# Altium schematic symbol library SCH_MyLib_0.SchLib: 770 symbols (part 5 of 7)
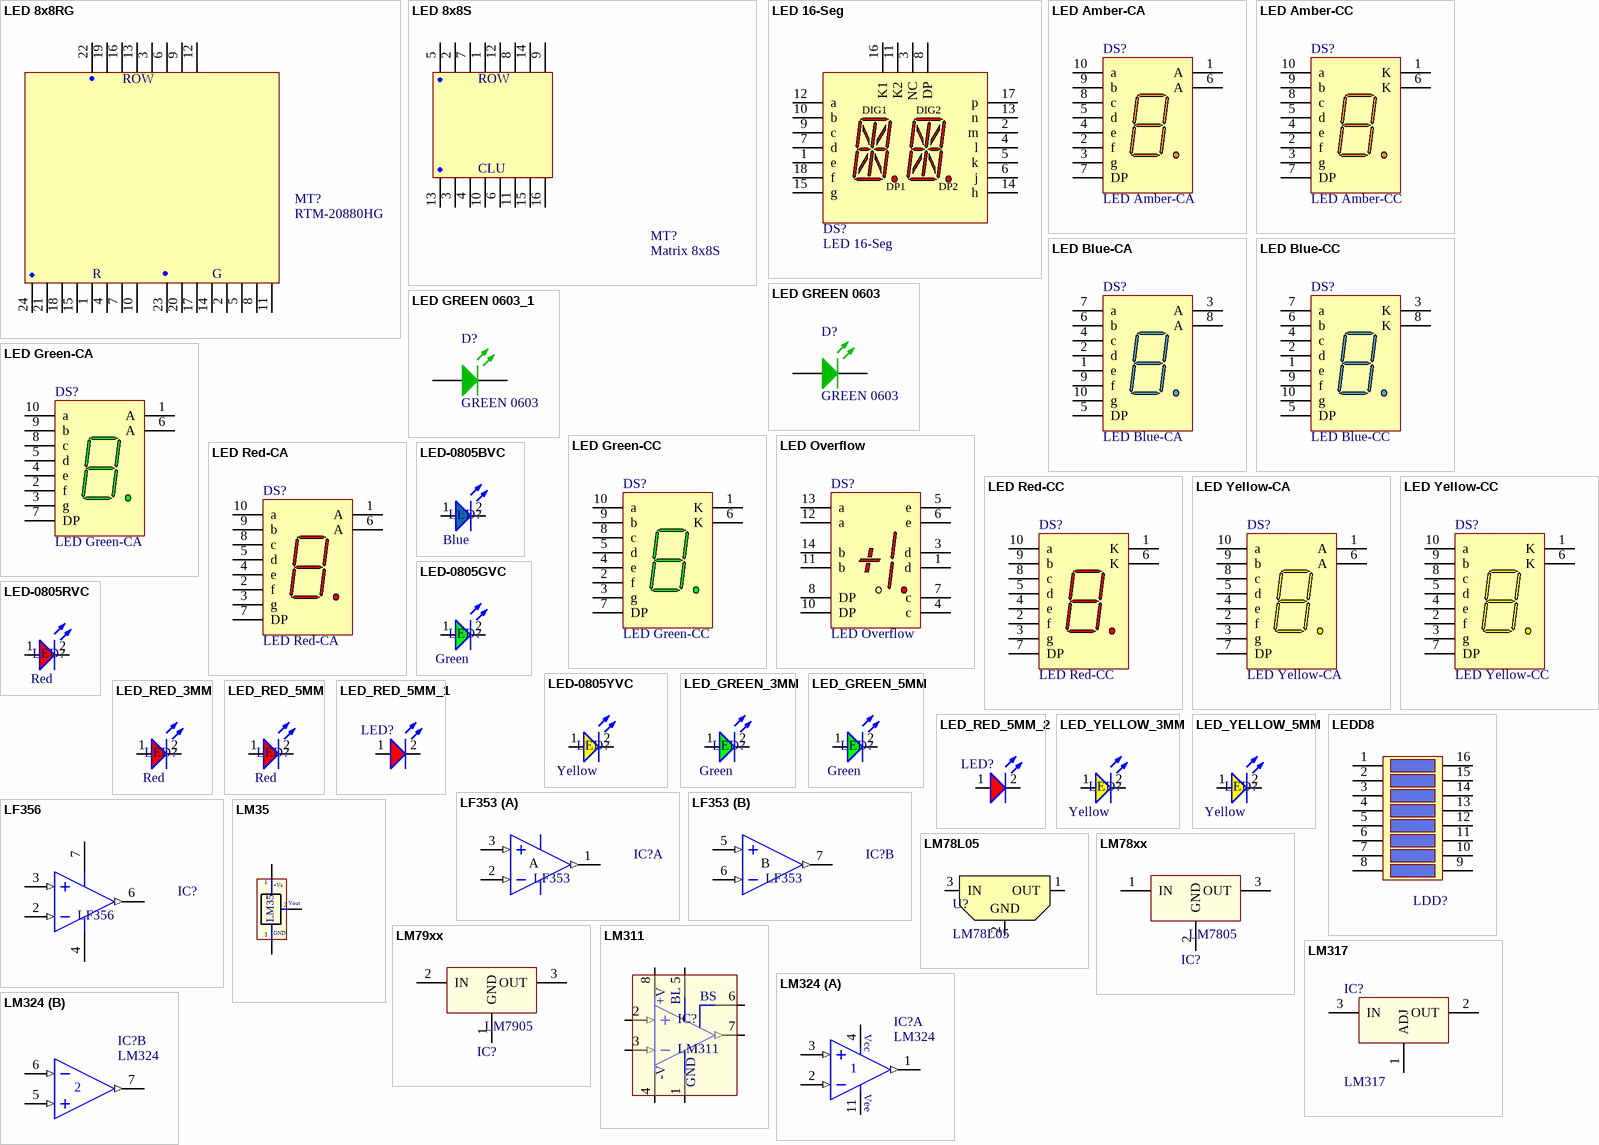
[diagram p31: symbols LED 8x8RG to LM324]

## LED GREEN 0603_1
designator D?, comment GREEN 0603
LED GREEN CLEAR 0603 SMD; Manufacturer: Lite-On Inc.; Manufacturer Part Number: LTST-C190KGKT; Lens Color: Colorless; Millicandela Rating: 35mcd; Lens Style/Size: Rectangle with Flat Top, 1.10mm x 0.80mm; Voltage - Forward (Vf) (Typ): 2V; Current - Test: 20mA; Viewing Angle: 130°; Wavelength - Dominant: 571nm; Wavelength - Peak: 574nm; RoHS: RoHS Compliant; Category: Optoelectronics; Packaging: Cut Tape (CT); Color: Green; Lens Transparency: Clear; Mounting Type: Surface Mount; Features: -; Package / Case: 0603 (1608 Metric); Supplier Device Package: *; Size / Dimension: 1.60mm L x 0.80mm W; Height (Max): 0.80mm; ComponentLink1URL: http://optoelectronics.liteon.com/upload/download/DS22-2000-074/S_110_LTST-C190KGKT.pdf; ComponentLink1Description: http://optoelectronics.liteon.com/upload/download/DS22-2000-074/S_110_LTST-C190KGKT.pdf; Supplier 1: Digi-Key; Supplier Part Number 1: 160-1435-1-ND
footprint LED 0603 SMD (Reflow Soldering)
pins: 1 A, 2 K

## LED Green-CA
designator DS?
7.62 mm Black Surface Green 7-Segment Display: CA, RH DP; MinimumIntensity: 860 ucd; Note: IF = 10 mA; Note: Pins 1 and 6 are redundant Anodes.; Published: 8-Jun-2000; LatestRevisionDate: 17-Dec-2003; LatestRevisionNote: Schematic revised, PCB Footprint replaced.; DatasheetVersion: 19-Feb-2002; PackageVersion: 11-Feb-2002; PackageReference: A; Publisher: Altium Limited; PackageDescription: LED, 7-Segment Display, 7.62 mm, RHD; 10 Leads; Row Space 5.08 mm; Pitch 2.54 mm; Colour: Green; ComponentLink1Description: Manufacturer Link; ComponentLink1URL: http://www.agilent.com/
footprint A (LED, 7-Segment Display, 7.62 mm, RHD; 10 Leads; Row Space 5.08 mm; Pitch 2.54 mm)
simulation model HDSP_A511 (SUBCKT)
pins: 1 A "Anode", 2 f "Cathode", 3 g "Cathode", 4 e "Cathode", 5 d "Cathode", 6 A "Anode", 7 DP "Cathode", 8 c "Cathode", 9 b "Cathode", 10 a "Cathode"

## LED Green-CC
designator DS?
7.62 mm Black Surface Green 7-Segment Display: CC, RH DP; MinimumIntensity: 860 ucd; Note: IF = 10 mA; Note: Pins 1 and 6 are redundant Cathodes.; Published: 8-Jun-2000; LatestRevisionDate: 17-Dec-2003; LatestRevisionNote: Schematic revised, PCB Footprint replaced.; DatasheetVersion: 19-Feb-2002; PackageVersion: 11-Feb-2002; PackageReference: A; Publisher: Altium Limited; PackageDescription: LED, 7-Segment Display, 7.62 mm, RHD; 10 Leads; Row Space 5.08 mm; Pitch 2.54 mm; Colour: Green; ComponentLink1Description: Manufacturer Link; ComponentLink1URL: http://www.agilent.com/
footprint A (LED, 7-Segment Display, 7.62 mm, RHD; 10 Leads; Row Space 5.08 mm; Pitch 2.54 mm)
simulation model HDSP_A513 (SUBCKT)
pins: 1 K "Cathode", 2 f "Anode", 3 g "Anode", 4 e "Anode", 5 d "Anode", 6 K "Cathode", 7 DP "Anode", 8 c "Anode", 9 b "Anode", 10 a "Anode"

## LED Overflow
designator DS?
7.62 mm HER 7-Segment Display: Universal ±1 Overflow, RH DP; MinimumIntensity: 340 ucd; Note: IF = 5 mA; Colour: High Efficiency Red (HER); Note: No pins are present in positions 2 and 9.; Published: 8-Jun-2000; LatestRevisionDate: 17-Dec-2003; LatestRevisionNote: Schematic revised, PCB Footprint replaced.; DatasheetVersion: 27-Aug-2001; PackageVersion: 10-Mar-2001; PackageReference: A-12; Publisher: Altium Limited; PackageDescription: LED, Universal ±1 Overflow, 7.62 mm, RHD; 14 Leads (2 Absent); Row Space 7.62 mm; Pitch 2.54 mm; ComponentLink1Description: Manufacturer Link; ComponentLink1URL: http://www.agilent.com/
footprint A-12 (LED, Universal ±1 Overflow, 7.62 mm, RHD; 14 Leads (2 Absent); Row Space 7.62 mm; Pitch 2.54 mm)
simulation model 5082_7616 (SUBCKT)
pins: 1 d "Anode", 3 d "Cathode", 4 c "Cathode", 5 e "Cathode", 6 e "Anode", 7 c "Anode", 8 DP "Anode", 10 DP "Cathode", 11 b "Cathode", 12 a "Cathode", 13 a "Anode", 14 b "Anode"

## LED Red-CA
designator DS?
7.62 mm Black Surface HER 7-Segment Display: CA, RH DP; MinimumIntensity: 360 ucd; Note: IF = 5 mA; Colour: High Efficiency Red (HER); Note: Pins 1 and 6 are redundant Anodes.; Published: 8-Jun-2000; LatestRevisionDate: 17-Dec-2003; LatestRevisionNote: Schematic revised, PCB Footprint replaced.; DatasheetVersion: 19-Feb-2002; PackageVersion: 11-Feb-2002; PackageReference: A; Publisher: Altium Limited; PackageDescription: LED, 7-Segment Display, 7.62 mm, RHD; 10 Leads; Row Space 5.08 mm; Pitch 2.54 mm; ComponentLink1Description: Manufacturer Link; ComponentLink1URL: http://www.agilent.com/
footprint A (LED, 7-Segment Display, 7.62 mm, RHD; 10 Leads; Row Space 5.08 mm; Pitch 2.54 mm)
simulation model HDSP_A211 (SUBCKT)
pins: 1 A "Anode", 2 f "Cathode", 3 g "Cathode", 4 e "Cathode", 5 d "Cathode", 6 A "Anode", 7 DP "Cathode", 8 c "Cathode", 9 b "Cathode", 10 a "Cathode"

## LED Red-CC
designator DS?
7.62 mm Black Surface HER 7-Segment Display: CC, RH DP; MinimumIntensity: 360 ucd; Note: IF = 5 mA; Colour: High Efficiency Red (HER); Note: Pins 1 and 6 are redundant Cathodes.; Published: 8-Jun-2000; LatestRevisionDate: 17-Dec-2003; LatestRevisionNote: Schematic revised, PCB Footprint replaced.; DatasheetVersion: 19-Feb-2002; PackageVersion: 11-Feb-2002; PackageReference: A; Publisher: Altium Limited; PackageDescription: LED, 7-Segment Display, 7.62 mm, RHD; 10 Leads; Row Space 5.08 mm; Pitch 2.54 mm; ComponentLink1Description: Manufacturer Link; ComponentLink1URL: http://www.agilent.com/
footprint A (LED, 7-Segment Display, 7.62 mm, RHD; 10 Leads; Row Space 5.08 mm; Pitch 2.54 mm)
simulation model HDSP_A213 (SUBCKT)
pins: 1 K "Cathode", 2 f "Anode", 3 g "Anode", 4 e "Anode", 5 d "Anode", 6 K "Cathode", 7 DP "Anode", 8 c "Anode", 9 b "Anode", 10 a "Anode"

## LED Yellow-CA
designator DS?
7.6 mm Micro Bright Yellow 7-Segment Display: CA, RH DP; MinimumIntensity: 225 ucd; Note: IF = 5 mA; Note: Pins 1 and 6 are redundant Anodes.; Published: 8-Jun-2000; LatestRevisionDate: 17-Dec-2003; LatestRevisionNote: Schematic revised, PCB Footprint replaced.; DatasheetVersion: 11-Feb-2002; PackageVersion: 11-Feb-2002; PackageReference: A; Publisher: Altium Limited; PackageDescription: LED, 7-Segment Display, 7.62 mm, RHD; 10 Leads; Row Space 5.08 mm; Pitch 2.54 mm; Colour: Yellow; ComponentLink1Description: Manufacturer Link; ComponentLink1URL: http://www.agilent.com/
footprint A (LED, 7-Segment Display, 7.62 mm, RHD; 10 Leads; Row Space 5.08 mm; Pitch 2.54 mm)
simulation model HDSP_7401 (SUBCKT)
pins: 1 A "Anode", 2 f "Cathode", 3 g "Cathode", 4 e "Cathode", 5 d "Cathode", 6 A "Anode", 7 DP "Cathode", 8 c "Cathode", 9 b "Cathode", 10 a "Cathode"

## LED Yellow-CC
designator DS?
7.6 mm Micro Bright Yellow 7-Segment Display: CC, RH DP; MinimumIntensity: 225 ucd; Note: IF = 5 mA; Note: Pins 1 and 6 are redundant Cathodes.; Published: 8-Jun-2000; LatestRevisionDate: 17-Dec-2003; LatestRevisionNote: Schematic revised, PCB Footprint replaced.; DatasheetVersion: 11-Feb-2002; PackageVersion: 11-Feb-2002; PackageReference: A; Publisher: Altium Limited; PackageDescription: LED, 7-Segment Display, 7.62 mm, RHD; 10 Leads; Row Space 5.08 mm; Pitch 2.54 mm; Colour: Yellow; ComponentLink1Description: Manufacturer Link; ComponentLink1URL: http://www.agilent.com/
footprint A (LED, 7-Segment Display, 7.62 mm, RHD; 10 Leads; Row Space 5.08 mm; Pitch 2.54 mm)
simulation model HDSP_7403 (SUBCKT)
pins: 1 K "Cathode", 2 f "Anode", 3 g "Anode", 4 e "Anode", 5 d "Anode", 6 K "Cathode", 7 DP "Anode", 8 c "Anode", 9 b "Anode", 10 a "Anode"

## LED-0805BVC
designator LED?  value Blue  (hidden comment: LED-0805BVC)
LED Blue 2mA 3V 0805; ComponentLink1Description: Datasheet; ComponentLink1URL: D:\Dropbox\Datasheets\Opto and Illumination\LEDs\SMD LED.pdf; Unit Price: 0.0476
footprint Led 0805G (Chip LED; Green; Body 2.0 x 1.3 mm (LxW typ))
pins: 1 A, 2 K

## LED-0805GVC
designator LED?  value Green  (hidden comment: LED-0805GVC)
LED Green 2mA 3V 0805; ComponentLink1Description: Datasheet; ComponentLink1URL: D:\Dropbox\Datasheets\Opto and Illumination\LEDs\SMD LED.pdf; Unit Price: 0.0476
footprint Led 0805G (Chip LED; Green; Body 2.0 x 1.3 mm (LxW typ))
pins: 1 A, 2 K

## LED-0805RVC
designator LED?  value Red  (hidden comment: LED-0805RVC)
LED Red 2mA 1.8V 0805; ComponentLink1Description: Datasheet; ComponentLink1URL: D:\Dropbox\Datasheets\Opto and Illumination\LEDs\SMD LED.pdf; Unit Price: 0.0476
footprint Led 0805R (Chip LED; RED ; Body 2.0 x 1.3 mm (LxW typ))
pins: 1 A, 2 K

## LED-0805YVC
designator LED?  value Yellow  (hidden comment: LED-0805YVC)
LED Yellow 2mA 1.8V 0805; ComponentLink1Description: Datasheet; ComponentLink1URL: D:\Dropbox\Datasheets\Opto and Illumination\LEDs\SMD LED.pdf; Unit Price: 0.0476
footprint Led 0805Y (Chip LED; Yellow; Body 2.0 x 1.3 mm (LxW typ))
pins: 1 A, 2 K

## LED_GREEN_3MM
designator LED?, comment value Green  (hidden comment: LED_G_3)
LED Green 3mm; ComponentLink1Description: Datasheet; ComponentLink1URL: D:\Dropbox\Datasheets\Opto and Illumination\LEDs\SMD LED.pdf; Unit Price: 0.0476
footprint LED3G (LED 3mm_GREEN)
pins: 1 A, 2 K

## LED_GREEN_5MM
designator LED?, comment value Green  (hidden comment: LED_G_5)
LED Green 5mm; ComponentLink1Description: Datasheet; ComponentLink1URL: D:\Dropbox\Datasheets\Opto and Illumination\LEDs\SMD LED.pdf; Unit Price: 0.0476
footprint LED5G (LED, GREEN, 2 LEAD, 5mm)
pins: 1 A, 2 K

## LED_RED_3MM
designator LED?, comment value Red  (hidden comment: LED_R_3)
LED Red 3mm; ComponentLink1Description: Datasheet; ComponentLink1URL: D:\Dropbox\Datasheets\Opto and Illumination\LEDs\SMD LED.pdf; Unit Price: 0.0476
footprint LED3R (LED 3mm_RED)
pins: 1 A, 2 K

## LED_RED_5MM
designator LED?, comment value Red  (hidden comment: LED_R_5)
LED Red 5mm; ComponentLink1Description: Datasheet; ComponentLink1URL: D:\Dropbox\Datasheets\Opto and Illumination\LEDs\SMD LED.pdf; Unit Price: 0.0476
footprint LED5R (LED, RED, 2 LEAD, 5mm)
pins: 1 A, 2 K

## LED_RED_5MM_1
designator LED?, comment RED LED 5mm  (value not drawn)
LED Red 5mm; Manufacturer: Broadcom Limited; Cost (VNĐ): 1000; Lens Transparency: Clear; Millicandela Rating: 60mcd; Lens Style/Size: Round with Domed Top, 5mm (T-1 3/4), 4.83mm; Voltage - Forward (Vf) (Typ): 1.9V; Current - Test: 10mA; Viewing Angle: 35°; Wavelength - Dominant: 626nm; Wavelength - Peak: 635nm; BuyLink: http://www.tme.vn/Product.aspx?id=1277#page=pro_info; Value: RED LED 5mm; Supplier 1: Digi-Key; Supplier Part Number 1: 516-1335-ND; Manufacturer Part Number: HLMP-3316; RoHS: RoHS Compliant; Category: Optoelectronics; Stock 1: 11943; Pricing 1: 1=0.41, 10=0.294, 25=0.24, 100=0.192, 250=0.162, 500=0.138, 1000=0.108, 2500=0.099 (USD); Packaging: Bulk; Part Status: Active; Color: Red; Lens Color: Red; Mounting Type: Through Hole; Features: -; Package / Case: Radial; Supplier Device Package: T-1 3/4; Size / Dimension: -; Height (Max): 9.19mm; ComponentLink1URL: https://docs.broadcom.com/docs/AV02-1023EN; ComponentLink1Description: https://docs.broadcom.com/docs/AV02-1023EN
footprint LED5R (LED, RED, 2 LEAD, 5mm)
pins: 1 A, 2 K

## LED_RED_5MM_2
designator LED?, comment RED LED 5mm  (value not drawn)
LED Red 5mm; Manufacturer: Broadcom Limited; Cost (VNĐ): 1000; Lens Transparency: Clear; Millicandela Rating: 60mcd; Lens Style/Size: Round with Domed Top, 5mm (T-1 3/4), 4.83mm; Voltage - Forward (Vf) (Typ): 1.9V; Current - Test: 10mA; Viewing Angle: 35°; Wavelength - Dominant: 626nm; Wavelength - Peak: 635nm; BuyLink: http://www.tme.vn/Product.aspx?id=1277#page=pro_info; Value: RED LED 5mm; Supplier 1: Digi-Key; Supplier Part Number 1: 516-1335-ND; Manufacturer Part Number: HLMP-3316; RoHS: RoHS Compliant; Category: Optoelectronics; Stock 1: 11943; Pricing 1: 1=0.41, 10=0.294, 25=0.24, 100=0.192, 250=0.162, 500=0.138, 1000=0.108, 2500=0.099 (USD); Packaging: Bulk; Part Status: Active; Color: Red; Lens Color: Red; Mounting Type: Through Hole; Features: -; Package / Case: Radial; Supplier Device Package: T-1 3/4; Size / Dimension: -; Height (Max): 9.19mm; ComponentLink1URL: https://docs.broadcom.com/docs/AV02-1023EN; ComponentLink1Description: https://docs.broadcom.com/docs/AV02-1023EN
footprint LED5R (LED, RED, 2 LEAD, 5mm)
pins: 1 A, 2 K

## LED_YELLOW_3MM
designator LED?, comment value Yellow  (hidden comment: LED_Y_3)
LED Yellow 3mm; ComponentLink1Description: Datasheet; ComponentLink1URL: D:\Dropbox\Datasheets\Opto and Illumination\LEDs\SMD LED.pdf; Unit Price: 0.0476
footprint LED3Y (LED 3mm_Yellow)
pins: 1 A, 2 K

## LED_YELLOW_5MM
designator LED?, comment value Yellow  (hidden comment: LED_Y_5)
LED Yellow 5mm; ComponentLink1Description: Datasheet; ComponentLink1URL: D:\Dropbox\Datasheets\Opto and Illumination\LEDs\SMD LED.pdf; Unit Price: 0.0476
footprint LED5Y (LED, YELLOW, 2 LEAD, 5mm)
pins: 1 A, 2 K

## LEDD8
designator LDD?, comment LED DIP 8  (value not drawn)
Value: LED DIP 8
footprint DIP16/W0.3K (16 PIN, W 300mil, Pin to pin 100mil For Switch)
pins: 1, 2, 3, 4, 5, 6, 7, 8, 9, 10, 11, 12, 13, 14, 15, 16

## LF353
designator IC?
Wide-Bandwidth Dual JFET Input Operational Amplifier; Published: 15-Apr-2002; LatestRevisionDate: 06-Jun-2005; LatestRevisionNote: Stylized 3D Model Added.; DatasheetDocument: Apr-1998; PackageDocument: Sep-1997; Publisher: Altium Limited; ComponentLink1Description: Manufacturer Link; ComponentLink1URL: http://www.national.com/; ComponentLink2Description: Datasheet; ComponentLink2URL: http://www.national.com/ds.cgi/LF/LF353.pdf; ComponentLink3Description: URL Link1; ComponentLink3URL: http://www.national.com/pf/LF/LF353.html; Value: LF353
footprint DIP8/W0.3 (8 PIN, W 300mil, Pin to pin 100mil)
part A pins: 1 OUT (out), 2 IN- (in), 3 IN+ (in)
part B pins: 5 IN+ (in), 6 IN- (in), 7 OUT (out)
part A text: A
part B text: B

## LF356
designator IC?
Wide-Bandwidth Single JFET Input Operational Amplifier; Published: 15-Apr-2002; LatestRevisionDate: 06-Jun-2005; LatestRevisionNote: Stylized 3D Model Added.; DatasheetDocument: Apr-1998; PackageDocument: Sep-1997; Publisher: Altium Limited; ComponentLink1Description: Manufacturer Link; ComponentLink1URL: http://www.national.com/; ComponentLink2Description: Datasheet; ComponentLink2URL: http://www.national.com/ds.cgi/LF/LF353.pdf; ComponentLink3Description: URL Link1; ComponentLink3URL: http://www.national.com/pf/LF/LF353.html; Value: LF356
footprint DIP8/W0.3 (8 PIN, W 300mil, Pin to pin 100mil)
pins: 2 IN- (in), 3 IN+ (in), 4 V- (power), 6 OUT (out), 7 V+ (power)

## LM35
designator U?
Teminal; Value: LM35
footprint QTO-92 (TO-92)
pins: 1 +Vs, 2 Vout, 3 -
text: GND

## LM78L05
designator U?
Linear Voltage Regulator 5V 0.1A 35V Max TO-92; ComponentLink1Description: Datasheet; ComponentLink1URL: D:\Dropbox\Datasheets\Power Management ICs\Linear Regulators\LM78LXX.pdf; Unit Price: 0.0714
footprint TO-92B (TO-92 Bent Lead, Flat Index; 3 In-Line, Axial Leads; Body Dia. 4.5mm; Leads 0.51 x 0.48 mm (max))
pins: 1 OUT (power), 2 GND (power), 3 IN (power)

## LM78xx
designator IC?, comment LM7805
On ap +, from + 5 to + 24VDC; Value: LM7805
footprint QTO-220 (TO-220 - 1-2-3)
footprint QTO-220H3 (TO-220 1-2-3)
footprint QTO-220NH (TO-220 - 1-2-3)
pins: 1 IN, 2 GND, 3 OUT

## LM79xx
designator IC?, comment LM7905
On ap -, from - 5 to - 24VDC; Value: LM7905
footprint QTO-220 (TO-220 - 1-2-3)
footprint QTO-220H3 (TO-220 1-2-3)
footprint QTO-220NH (TO-220 - 1-2-3)
pins: 1 GND, 2 IN, 3 OUT

## LM311
designator IC?
Voltage Comparator; Value: DIP 8; Value: LM311
footprint DIP8/W0.3 (8 PIN, W 300mil, Pin to pin 100mil)
footprint SO-8 (8-Pin Small Outline Integrated Circuit 1.27 mm Pitch, IPC Medium Density)
pins: 1 F2 (power), 2 IN+ (in), 3 IN- (in), 4 GND (power), 5 F1 (power), 6 F2 (power), 7 OUT (out), 8 V+ (power)
text: +V; BL; BS; -V

## LM317
designator IC?
Adj Voltage +1.2 -> +37V; Value: LM317
footprint QTO-220 (TO-220 - 1-2-3)
pins: 1 ADJ, 2 OUT, 3 IN

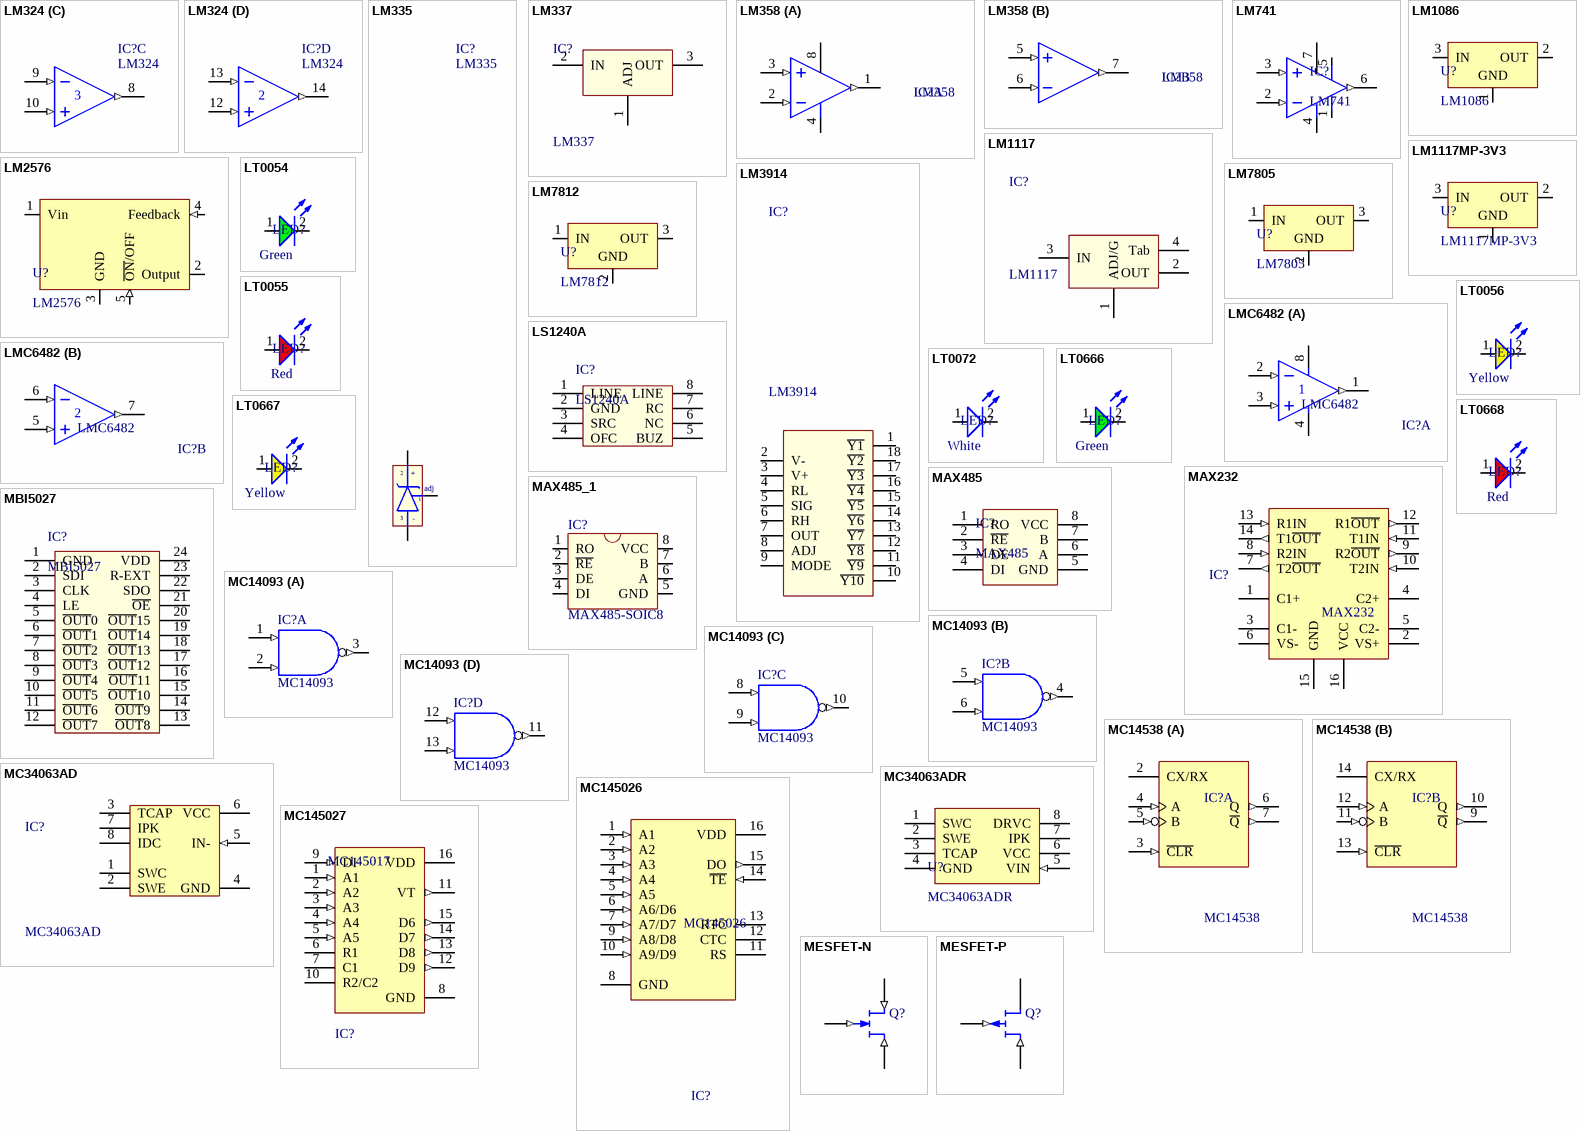
[diagram p16: symbols LM324 to MESFET-P]

## LM324
designator IC?
Op x 4; Value: LM324
footprint DIP14/W0.3 (14PIN, W 300mil)
part A pins: 1 OUT (out), 2 IN- (in), 3 IN+ (in), 4 V+ (power), 11 V- (power)
part B pins: 5 IN+ (in), 6 IN- (in), 7 OUT (out)
part C pins: 8 OUT (out), 9 IN- (in), 10 IN+ (in)
part D pins: 12 IN+ (in), 13 IN- (in), 14 OUT (out)
part A text: Vcc; Vee

## LM335
designator IC?
Teminal; Value: LM335
footprint QTO-92 (TO-92)
pins: 1 adj, 2 +, 3 -

## LM337
designator IC?
On ap (-)     -1.2 -> - 37V; Value: LM337
footprint QTO-220 (TO-220 - 1-2-3)
pins: 1 ADJ, 2 IN, 3 OUT

## LM358
designator IC?
Low-Power Dual Operational Amplifier; Value: LM358
footprint DIP8/W0.3 (8 PIN, W 300mil, Pin to pin 100mil)
part A pins: 1 OUT (out), 2 IN- (in), 3 IN+ (in), 4 -V, 8 +V
part B pins: 5 IN+ (in), 6 IN- (in), 7 OUT (out)

## LM741
designator IC?
Single OA
footprint DIP8/W0.3 (8 PIN, W 300mil, Pin to pin 100mil)
pins: 1 Vos, 2 IN- (in), 3 IN+ (in), 4 -V, 5 Vos, 6 OUT (out), 7 +V

## LM1086
designator U?
Linear Voltage Regulator 3V3 1.5A 24V Max TO-220; ComponentLink1Description: Datasheet; ComponentLink1URL: D:\Dropbox\Datasheets\Power Management ICs\Linear Regulators\LM78XX.pdf; Unit Price: 0.3000
footprint LM1086 (TO-263 1.5A Low Dropout Positive Regulators)
pins: 1 GND (power), 2 OUT (power), 3 IN (power)

## LM1117
designator IC?
3v3; Value: LM317
footprint SOT223-4N (SOT223, 4-Leads, Body 6.5x3.5mm, Pitch 2.3mm, Lead Span 7mm, IPC Medium Density)
pins: 1 ADJ/G, 2 OUT, 3 IN, 4 Tab

## LM1117MP-3V3
designator U?
Linear Voltage Regulator 3.3V 1A 15V Max SOT-223; ComponentLink1Description: Datasheet; ComponentLink1URL: D:\Dropbox\Datasheets\Power Management ICs\Linear Regulators\LM1117.pdf; Unit Price: 0.2000
footprint AMS1117-3.3V (SOT223, 4-Leads, Body 6.7x7.3mm (max), Pitch 2.30mm, IPC Medium Density)
pins: 1 GND (power), 2 OUT (power), 3 IN (power), 4 OUT (power)

## LM2576
designator U?
Step-Down Switching Regulator 5V 3.0 A 15 V Max
pins: 1 Vin (power), 2 Output (power), 3 GND (power), 4 Feedback (in), 5 ~{ON}/OFF (in)

## LM3914
designator IC?
Value: LM3914
footprint DIP18/W0.3 (18 PIN, W 300mil, Pin to pin 100mil)
pins: 1 ~{Y1}, 2 V-, 3 V+, 4 RL, 5 SIG, 6 RH, 7 OUT, 8 ADJ, 9 MODE, 10 ~{Y10}, 11 ~{Y9}, 12 ~{Y8}, 13 ~{Y7}, 14 ~{Y6}, 15 ~{Y5}, 16 ~{Y4}, 17 ~{Y3}, 18 ~{Y2}

## LM7805
designator U?
Linear Voltage Regulator 5V 1A 24V Max TO-220; ComponentLink1Description: Datasheet; ComponentLink1URL: D:\Dropbox\Datasheets\Power Management ICs\Linear Regulators\LM78XX.pdf; Unit Price: 0.3000
footprint LM7805 (POWER IC 7805)
pins: 1 IN (power), 2 GND (power), 3 OUT (power)

## LM7812
designator U?
Linear Voltage Regulator 12V 1A 24V Max TO-220; ComponentLink1Description: Datasheet; ComponentLink1URL: D:\Dropbox\Datasheets\Power Management ICs\Linear Regulators\LM78XX.pdf; Unit Price: 0.3000
footprint LM7805 (POWER IC 7805)
pins: 1 IN (power), 2 GND (power), 3 OUT (power)

## LMC6482
designator IC?
Dual OA; Value: LMC6482
footprint DIP8/W0.3 (8 PIN, W 300mil, Pin to pin 100mil)
part A pins: 1 OUT (out), 2 IN- (in), 3 IN+ (in), 4 V- (power), 8 V+ (power)
part B pins: 5 IN+ (in), 6 IN- (in), 7 OUT (out)

## LS1240A
designator IC?
Electronic Two-Tone Ringer
footprint DIP8/W0.3 (8 PIN, W 300mil, Pin to pin 100mil)
pins: 1 LINE, 2 GND, 3 SRC, 4 OFC, 5 BUZ, 6 NC, 7 RC, 8 LINE

## LT0054
designator LED?  value Green  (hidden comment: LT0054)
LED Green 20mA 2.2V 5mm; ComponentLink1Description: Datasheet; ComponentLink1URL: D:\Dropbox\Datasheets\Opto and Illumination\LEDs\LT0054.pdf; Unit Price: 0.0085
footprint LED5G (Footprint not found)
pins: 1 A, 2 K

## LT0055
designator LED?  value Red  (hidden comment: LT0055)
LED Red 20mA 2.0V 5mm; ComponentLink1Description: Datasheet; ComponentLink1URL: D:\Dropbox\Datasheets\Opto and Illumination\LEDs\LT0055.pdf; Unit Price: 0.0077
footprint LED5R (Footprint not found)
pins: 1 A, 2 K

## LT0056
designator LED?  value Yellow  (hidden comment: LT0056)
LED Yellow 20mA 2.1V 5mm; ComponentLink1Description: Datasheet; ComponentLink1URL: D:\Dropbox\Datasheets\Opto and Illumination\LEDs\LT0056.pdf; Unit Price: 0.0085
footprint LED5Y (Footprint not found)
pins: 1 A, 2 K

## LT0072
designator LED?  value White  (hidden comment: LT0072)
LED White 20mA 2.8V 5mm; ComponentLink1Description: Datasheet; ComponentLink1URL: D:\Dropbox\Datasheets\Opto and Illumination\LEDs\LT0072.pdf; Unit Price: 0.0085
footprint LED5W (IrLED; 2 Leads; 5mm)
pins: 1 A, 2 K

## LT0666
designator LED?  value Green  (hidden comment: LT0666)
LED Green 2mA 2.2V 3mm; ComponentLink1Description: Datasheet; ComponentLink1URL: D:\Dropbox\Datasheets\Opto and Illumination\LEDs\LT0666.pdf; Unit Price: 0.0070
footprint LED3G (Footprint not found)
pins: 1 A, 2 K

## LT0667
designator LED?  value Yellow  (hidden comment: LT0667)
LED Yellow 2mA 2.1V 3mm; ComponentLink1Description: Datasheet; ComponentLink1URL: D:\Dropbox\Datasheets\Opto and Illumination\LEDs\LT0667.pdf; Unit Price: 0.0082
footprint LED3Y (Footprint not found)
pins: 1 A, 2 K

## LT0668
designator LED?  value Red  (hidden comment: LT0668)
LED Red 2mA 2.0V 3mm; ComponentLink1Description: Datasheet; ComponentLink1URL: D:\Dropbox\Datasheets\Opto and Illumination\LEDs\LT0668.pdf; Unit Price: 0.0067
footprint LED3R (Footprint not found)
pins: 1 A, 2 K

## MAX232
designator IC?
Dual EIA-232 Driver/Receiver; Value: MAX232
footprint DIP16/W0.3 (16 PIN, W 300mil, Pin to pin 100mil)
footprint SO-G16 (Small Outline; 16 Leads; Body Width 3.9 mm; Pitch 1.27 mm)
pins: 1 C1+, 2 VS+ (power), 3 C1-, 4 C2+, 5 C2-, 6 VS- (power), 7 T2~{OUT} (out), 8 R2IN (in), 9 R2~{OUT} (out), 10 T2IN (in), 11 T1IN (in), 12 R1~{OUT} (out), 13 R1IN (in), 14 T1~{OUT} (out), 15 GND (power), 16 VCC (power)

## MAX485
designator IC?
RS232 - RS485 (Same sn75176)
footprint DIP8/W0.3 (8 PIN, W 300mil, Pin to pin 100mil)
footprint SO-8 (8-Pin Small Outline Integrated Circuit 1.27 mm Pitch, IPC Medium Density)
pins: 1 RO "Receiver Output", 2 ~{RE} "Receiver Enable Output", 3 DE "Driver Enable Output", 4 DI "Driver Input", 5 GND, 6 A "RI & NoneDO", 7 B "NoneDI", 8 VCC

## MAX485_1
designator IC?, comment MAX485-SOIC8
footprint MAX485 (8-Pin SOIC 208 mil)
pins: 1 RO, 2 ~{RE}, 3 DE, 4 DI, 5 GND, 6 A, 7 B, 8 VCC

## MBI5027
designator IC?
16 bit Constant Current LED; Creat by: VanDungEvn@Gmail.com; Compoment same: SM16126
footprint SOP_24M_127 (SOP, 24-Leads, Body 15.6x8.1mm, Pitch 1.27mm, IPC Low Density)
pins: 1 GND, 2 SDI, 3 CLK, 4 LE, 5 ~{OUT}0, 6 ~{OUT}1, 7 ~{OUT}2, 8 ~{OUT}3, 9 ~{OUT}4, 10 ~{OUT}5, 11 ~{OUT}6, 12 ~{OUT}7, 13 ~{OUT}8, 14 ~{OUT}9, 15 ~{OUT}10, 16 ~{OUT}11, 17 ~{OUT}12, 18 ~{OUT}13, 19 ~{OUT}14, 20 ~{OUT}15, 21 ~{OE}, 22 SDO, 23 R-EXT, 24 VDD

## MC14093
designator IC?
Quad 2-Input NAND Schmitt Trigger; Value: MC14093
footprint DIP14/W0.3 (14PIN, W 300mil, Pin to pin 100mil)
pins on every part: 7 GND (power) hidden to GND, 14 VDD (power) hidden to VDD
part A pins: 1 A (in), 2 B (in), 3 ~{Y} (out)
part B pins: 4 ~{Y} (out), 5 A (in), 6 B (in)
part C pins: 8 A (in), 9 B (in), 10 ~{Y} (out)
part D pins: 11 ~{Y} (out), 12 A (in), 13 B (in)

## MC14538
designator IC?
Dual Precision Retriggerable/Resettable Monostable Multivibrator; Value: MC14538
footprint DIP16/W0.3 (16 PIN, W 300mil, Pin to pin 100mil)
pins on every part: 1 GND (power) hidden to GND, 8 GND (power) hidden to GND, 15 GND (power) hidden to GND, 16 VDD (power) hidden to VDD
part A pins: 2 CX/RX, 3 ~{CLR} (in), 4 A (in), 5 B (in), 6 Q (out), 7 ~{Q} (out)
part B pins: 9 ~{Q} (out), 10 Q (out), 11 B (in), 12 A (in), 13 ~{CLR} (in), 14 CX/RX

## MC34063AD
designator IC?
DC-to-DC Converter Control Circuit; Published: 15-Apr-2002; LatestRevisionDate: 13-Apr-2006; LatestRevisionNote: IPC-7351 Footprint Added.; DatasheetVersion: 1996; PackageVersion: 1998; PackageReference: 751-05; Publisher: Altium Limited; PackageDescription: 8-Pin Small Outline Integrated Circuit 1.27 mm Pitch; Code_JEDEC: MS-012-AA; Code_IPC: SOIC127P600-8; ComponentLink1Description: Manufacturer Link; ComponentLink1URL: http://www.onsemi.com/site/products/taxonomy/0,4438,503,00.html; ComponentLink2Description: Datasheet; ComponentLink2URL: http://www.onsemi.com/pub/Collateral/MC34063A-D.PDF
footprint SO-G8/Z7.45 (Small Outline; 8 Leads; Body Width 3.9 mm; Pitch 1.27 mm)
footprint DIP8/W0.3 (8 PIN, W 300mil, Pin to pin 100mil)
pins: 1 SWC, 2 SWE, 3 TCAP, 4 GND (power), 5 IN- (in), 6 VCC (power), 7 IPK, 8 IDC (oc)

## MC34063ADR
designator U?
Peak Boost/Buck/Inverting Switching  Regulators 1.5 A 40 V Max SOIC-8; ComponentLink1Description: Datasheet; ComponentLink1URL: D:\Dropbox\Datasheets\Power Management ICs\Switching Regulators\MC34063A.pdf; Unit Price: 0.2000
footprint SOIC-8 (8-pin soic package 1.27 mm pitch 1.75 mm height)
pins: 1 SWC, 2 SWE, 3 TCAP, 4 GND (power), 5 VIN (in), 6 VCC (power), 7 IPK, 8 DRVC

## MC145026
designator IC?
Encoder Remote; Value: MC145026
footprint DIP16/W0.3 (16 PIN, W 300mil, Pin to pin 100mil)
pins: 1 A1 (in), 2 A2 (in), 3 A3 (in), 4 A4 (in), 5 A5 (in), 6 A6/D6 (in), 7 A7/D7 (in), 8 GND (power), 9 A8/D8 (in), 10 A9/D9 (in), 11 RS, 12 CTC, 13 RTC, 14 ~{TE} (in), 15 DO (out), 16 VDD (power)

## MC145027
designator IC?, comment MC145017
Decoder Remote; Value: MC145027
footprint DIP16/W0.3 (16 PIN, W 300mil, Pin to pin 100mil)
pins: 1 A1 (in), 2 A2 (in), 3 A3 (in), 4 A4 (in), 5 A5 (in), 6 R1, 7 C1, 8 GND (power), 9 DI (in), 10 R2/C2, 11 VT (out), 12 D9 (out), 13 D8 (out), 14 D7 (out), 15 D6 (out), 16 VDD (power)

## MESFET-N
designator Q?
N-Channel MESFET; Published: 8-Jun-2000; LatestRevisionDate: 17-Jul-2002; LatestRevisionNote: Re-released for DXP Platform.; PackageReference: TO-18; Publisher: Altium Limited; PackageDescription: Can; 3 Leads; Pin Circle Dia. 2.54 mm; Lead Dia. 0.48 mm (max); Code_JEDEC: TO-18
footprint TO-18 (Can; 3 Leads; Pin Circle Dia. 2.54 mm; Lead Dia. 0.48 mm (max))
simulation model NMESFET (MESFET-N)
pins: 1 D (in), 2 G (in), 3 S (in)

## MESFET-P
designator Q?
P-Channel MESFET; Published: 8-Jun-2000; LatestRevisionDate: 17-Jul-2002; LatestRevisionNote: Re-released for DXP Platform.; PackageReference: TO-18; Publisher: Altium Limited; PackageDescription: Can; 3 Leads; Pin Circle Dia. 2.54 mm; Lead Dia. 0.48 mm (max); Code_JEDEC: TO-18
footprint TO-18 (Can; 3 Leads; Pin Circle Dia. 2.54 mm; Lead Dia. 0.48 mm (max))
simulation model PMESFET (MESFET-P)
pins: 1 D (in), 2 G (in), 3 S

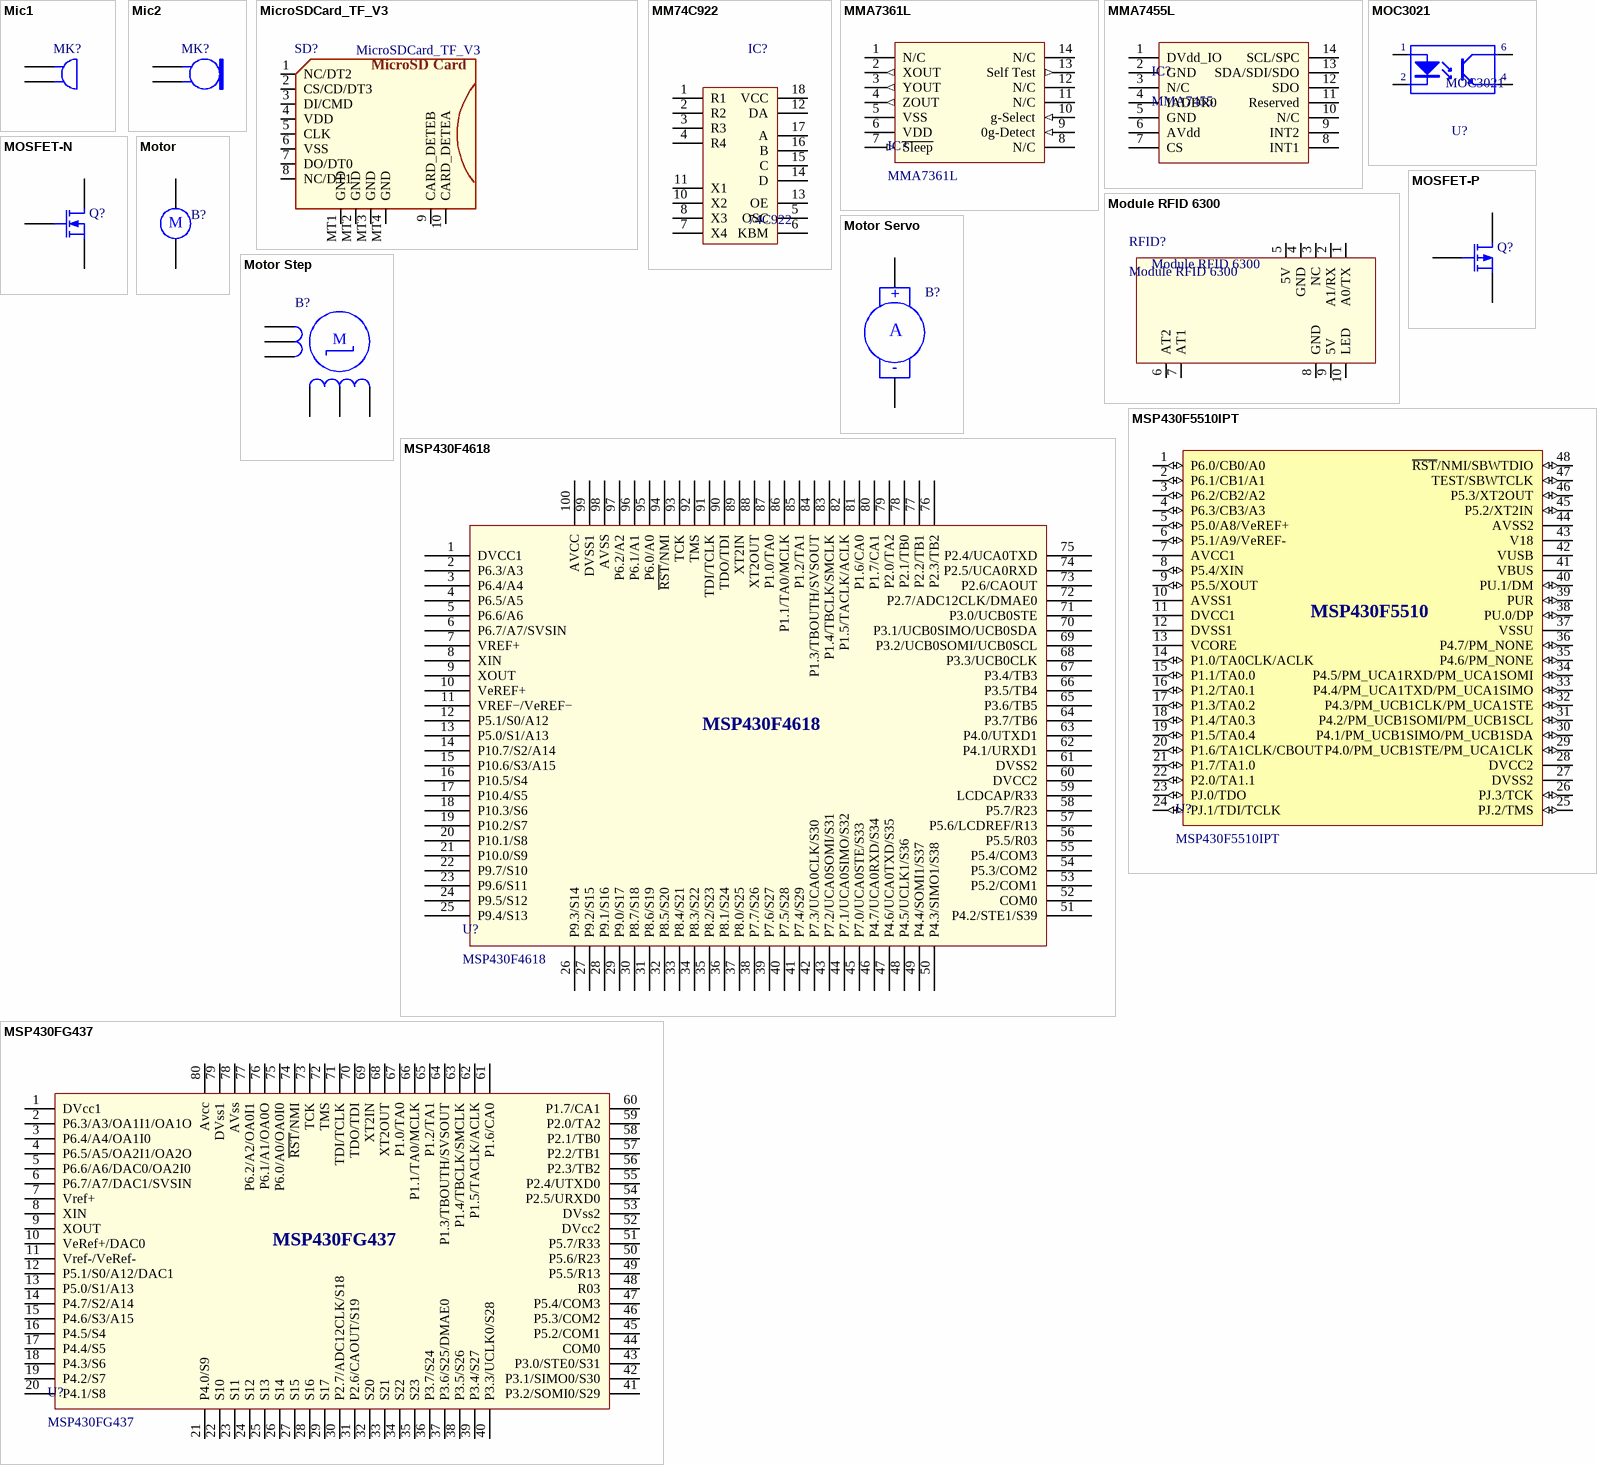
[diagram p17: symbols Mic1 to MSP430FG437]

## Mic1
designator MK?
Microphone; Published: 24-Mar-1999; LatestRevisionDate: 17-Jul-2002; LatestRevisionNote: Re-released for DXP Platform.; PackageReference: PIN2; Publisher: Altium Limited
footprint PIN2 (Microphone; 2 Leads)
pins: 1, 2

## Mic2
designator MK?
Microphone; Published: 24-Mar-1999; LatestRevisionDate: 17-Jul-2002; LatestRevisionNote: Re-released for DXP Platform.; PackageReference: PIN2; Publisher: Altium Limited
footprint PIN2 (Microphone; 2 Leads)
pins: 1, 2

## MicroSDCard_TF_V3
designator SD?
pins: 1 NC/DT2, 2 CS/CD/DT3, 3 DI/CMD, 4 VDD, 5 CLK, 6 VSS, 7 DO/DT0, 8 NC/DT1, 9 CARD_DETEB, 10 CARD_DETEA, MT1 GND, MT2 GND, MT3 GND, MT4 GND
text: MicroSD Card

## MM74C922
designator IC?, comment 74C922
16 Key Encoder With Debouncer; Value: MM74C922
footprint DIP18/W0.3 (18 PIN, W 300mil, Pin to pin 100mil)
pins: 1 R1, 2 R2, 3 R3, 4 R4, 5 OSC, 6 KBM, 7 X4, 8 X3, 9 GND hidden to GND, 10 X2, 11 X1, 12 DA, 13 OE, 14 D, 15 C, 16 B, 17 A, 18 VCC

## MMA7361L
designator IC?
±2g/±4g/±8g Three Axis Low-g  analog Output
footprint MMA7361L (1.5g, 6g Three Axis Low-g Micromachined Accelerometer)
pins: 1 N/C, 2 XOUT (out), 3 YOUT (out), 4 ZOUT (out), 5 VSS, 6 VDD, 7 ~{Sleep} (in), 8 N/C, 9 0g-Detect (in), 10 g-Select (in), 11 N/C, 12 N/C, 13 Self Test (out), 14 N/C

## MMA7455L
designator IC?, comment MMA7455
±2g/±4g/±8g Three Axis Low-g  I2C Output
footprint MMA7455 (Footprint not found)
pins: 1 DVdd_IO, 2 GND, 3 N/C, 4 IADDR0, 5 GND, 6 AVdd, 7 CS, 8 INT1, 9 INT2, 10 N/C, 11 Reserved, 12 SDO, 13 SDA/SDI/SDO, 14 SCL/SPC

## MOC3021
designator U?
Single Opto; Value: MOC3021
footprint DIP6/W0.3 (6 PIN, W 300mil, Pin to pin 100mil)
pins: 1 A "Anode", 2 K "Cathode", 4 E "Emitter", 6 C "Collector"

## Module RFID 6300
designator RFID?
pins: 1 A0/TX, 2 A1/RX, 3 NC, 4 GND, 5 5V, 6 AT2, 7 AT1, 8 GND, 9 5V, 10 LED

## MOSFET-N
designator Q?
N-Channel MOSFET; Published: 8-Jun-2000; LatestRevisionDate: 17-Jul-2002; LatestRevisionNote: Re-released for DXP Platform.; PackageVersion: 1995/1996; PackageReference: E3; Publisher: Altium Limited; PackageDescription: TO, Flat Index; 3 In-Line, Axial Leads; Body Dia. 4.6mm; Lead Dia. 0.5 mm (max)
footprint E3 (TO, Flat Index; 3 In-Line, Axial Leads; Body Dia. 4.6mm; Lead Dia. 0.5 mm (max))
simulation model NMOS (MOSFET-N)
pins: 1 D, 2 G, 3 S

## MOSFET-P
designator Q?
P-Channel MOSFET; Published: 8-Jun-2000; LatestRevisionDate: 17-Jul-2002; LatestRevisionNote: Re-released for DXP Platform.; PackageVersion: 1995/1996; PackageReference: E3; Publisher: Altium Limited; PackageDescription: TO, Flat Index; 3 In-Line, Axial Leads; Body Dia. 4.6mm; Lead Dia. 0.5 mm (max)
footprint E3 (TO, Flat Index; 3 In-Line, Axial Leads; Body Dia. 4.6mm; Lead Dia. 0.5 mm (max))
simulation model PMOS (MOSFET-P)
pins: 1 D, 2 G, 3 S

## Motor
designator B?
Motor, General Kind; Published: 24-Mar-1999; LatestRevisionDate: 17-Jul-2002; LatestRevisionNote: Re-released for DXP Platform.; PackageReference: RB5-10.5; Publisher: Altium Limited; PackageDescription: Capacitor (Radial); 2 Leads
footprint RB5-10.5 (Capacitor (Radial); 2 Leads)
pins: 1, 2
text: M

## Motor Servo
designator B?
Servo Motor; Published: 24-Mar-1999; LatestRevisionDate: 17-Jul-2002; LatestRevisionNote: Re-released for DXP Platform.; PackageReference: RAD-0.4; Publisher: Altium Limited; PackageDescription: Radial Cap, Thru-Hole; 2 Leads; 0.4 in Pin Spacing
footprint RAD-0.4 (Radial Cap, Thru-Hole; 2 Leads; 0.4 in Pin Spacing)
pins: 1 +, 2 -
text: A

## Motor Step
designator B?
Motor Stepper; Published: 24-Mar-1999; LatestRevisionDate: 17-Jul-2002; LatestRevisionNote: Re-released for DXP Platform.; PackageReference: DIP-6; Publisher: Altium Limited; Code_JEDEC: MO-001-AM
footprint MOTOR_STEPPER (10A PIN TO PIN 5mm 11mmx11mm)
pins: 1, 2, 3, 4, 5, 6
text: M

## MSP430F4618
designator U?
The Texas Instruments MSP430 family of ultralow-power microcontrollers
footprint MSP430F4618 (PZ (S-PQFP-G100) 14.2x14.2mm)
pins: 1 DVCC1, 2 P6.3/A3, 3 P6.4/A4, 4 P6.5/A5, 5 P6.6/A6, 6 P6.7/A7/SVSIN, 7 VREF+, 8 XIN, 9 XOUT, 10 VeREF+, 11 VREF−/VeREF−, 12 P5.1/S0/A12, 13 P5.0/S1/A13, 14 P10.7/S2/A14, 15 P10.6/S3/A15, 16 P10.5/S4, 17 P10.4/S5, 18 P10.3/S6, 19 P10.2/S7, 20 P10.1/S8, 21 P10.0/S9, 22 P9.7/S10, 23 P9.6/S11, 24 P9.5/S12, 25 P9.4/S13, 26 P9.3/S14, 27 P9.2/S15, 28 P9.1/S16, 29 P9.0/S17, 30 P8.7/S18, 31 P8.6/S19, 32 P8.5/S20, 33 P8.4/S21, 34 P8.3/S22, 35 P8.2/S23, 36 P8.1/S24, 37 P8.0/S25, 38 P7.7/S26, 39 P7.6/S27, 40 P7.5/S28, 41 P7.4/S29, 42 P7.3/UCA0CLK/S30 , 43 P7.2/UCA0SOMI/S31, 44 P7.1/UCA0SIMO/S32, 45 P7.0/UCA0STE/S33, 46 P4.7/UCA0RXD/S34, 47 P4.6/UCA0TXD/S35, 48 P4.5/UCLK1/S36, 49 P4.4/SOMI1/S37, 50 P4.3/SIMO1/S38, 51 P4.2/STE1/S39, 52 COM0, 53 P5.2/COM1, 54 P5.3/COM2, 55 P5.4/COM3, 56 P5.5/R03, 57 P5.6/LCDREF/R13, 58 P5.7/R23, 59 LCDCAP/R33, 60 DVCC2, 61 DVSS2, 62 P4.1/URXD1, 63 P4.0/UTXD1, 64 P3.7/TB6, 65 P3.6/TB5, 66 P3.5/TB4, 67 P3.4/TB3, 68 P3.3/UCB0CLK, 69 P3.2/UCB0SOMI/UCB0SCL, 70 P3.1/UCB0SIMO/UCB0SDA, 71 P3.0/UCB0STE, 72 P2.7/ADC12CLK/DMAE0, 73 P2.6/CAOUT, 74 P2.5/UCA0RXD, 75 P2.4/UCA0TXD, 76 P2.3/TB2, 77 P2.2/TB1, 78 P2.1/TB0, 79 P2.0/TA2, 80 P1.7/CA1, 81 P1.6/CA0, 82 P1.5/TACLK/ACLK, 83 P1.4/TBCLK/SMCLK, 84 P1.3/TBOUTH/SVSOUT, 85 P1.2/TA1, 86 P1.1/TA0/MCLK, 87 P1.0/TA0, 88 XT2OUT, 89 XT2IN, 90 TDO/TDI, 91 TDI/TCLK, 92 TMS, 93 TCK, 94 ~{RST}/NMI, 95 P6.0/A0, 96 P6.1/A1, 97 P6.2/A2, 98 AVSS, 99 DVSS1, 100 AVCC

## MSP430F5510IPT
designator U?
MCU 16bit 32KB 1.8-3.6V 25MHz LQFP-48; ComponentLink1Description: Datasheet; ComponentLink1URL: D:\Dropbox\Datasheets\Microcontrolers\MSP430\MSP430x5xx Family\MSP430F5510.pdf; Unit Price: 1.9000
footprint MSP430F5510 (PT (S-PQFP-G48))
pins: 1 P6.0/CB0/A0 (io), 2 P6.1/CB1/A1 (io), 3 P6.2/CB2/A2 (io), 4 P6.3/CB3/A3 (io), 5 P5.0/A8/VeREF+ (io), 6 P5.1/A9/VeREF- (io), 7 AVCC1 (power), 8 P5.4/XIN (io), 9 P5.5/XOUT (io), 10 AVSS1 (power), 11 DVCC1 (power), 12 DVSS1 (power), 13 VCORE (power), 14 P1.0/TA0CLK/ACLK (io), 15 P1.1/TA0.0 (io), 16 P1.2/TA0.1 (io), 17 P1.3/TA0.2 (io), 18 P1.4/TA0.3 (io), 19 P1.5/TA0.4 (io), 20 P1.6/TA1CLK/CBOUT (io), 21 P1.7/TA1.0 (io), 22 P2.0/TA1.1 (io), 23 PJ.0/TDO (io), 24 PJ.1/TDI/TCLK (io), 25 PJ.2/TMS (io), 26 PJ.3/TCK (io), 27 DVSS2 (power), 28 DVCC2 (power), 29 P4.0/PM_UCB1STE/PM_UCA1CLK (io), 30 P4.1/PM_UCB1SIMO/PM_UCB1SDA (io), 31 P4.2/PM_UCB1SOMI/PM_UCB1SCL (io), 32 P4.3/PM_UCB1CLK/PM_UCA1STE (io), 33 P4.4/PM_UCA1TXD/PM_UCA1SIMO (io), 34 P4.5/PM_UCA1RXD/PM_UCA1SOMI (io), 35 P4.6/PM_NONE (io), 36 P4.7/PM_NONE (io), 37 VSSU (power), 38 PU.0/DP (io), 39 PUR (io), 40 PU.1/DM (io), 41 VBUS (power), 42 VUSB (power), 43 V18 (power), 44 AVSS2 (power), 45 P5.2/XT2IN (io), 46 P5.3/XT2OUT (io), 47 TEST/SBWTCLK (io), 48 ~{RST}/NMI/SBWTDIO (io)
text: MSP430F5510

## MSP430FG437
designator U?
TI MCU+Op Amps 80pinPN
pins: 1 DVcc1, 2 P6.3/A3/OA1I1/OA1O, 3 P6.4/A4/OA1I0, 4 P6.5/A5/OA2I1/OA2O, 5 P6.6/A6/DAC0/OA2I0, 6 P6.7/A7/DAC1/SVSIN, 7 Vref+, 8 XIN, 9 XOUT, 10 VeRef+/DAC0, 11 Vref-/VeRef-, 12 P5.1/S0/A12/DAC1, 13 P5.0/S1/A13, 14 P4.7/S2/A14, 15 P4.6/S3/A15, 16 P4.5/S4, 17 P4.4/S5, 18 P4.3/S6, 19 P4.2/S7, 20 P4.1/S8, 21 P4.0/S9, 22 S10, 23 S11, 24 S12, 25 S13, 26 S14, 27 S15, 28 S16, 29 S17, 30 P2.7/ADC12CLK/S18, 31 P2.6/CAOUT/S19, 32 S20, 33 S21, 34 S22, 35 S23, 36 P3.7/S24, 37 P3.6/S25/DMAE0, 38 P3.5/S26, 39 P3.4/S27, 40 P3.3/UCLK0/S28, 41 P3.2/SOMI0/S29, 42 P3.1/SIMO0/S30, 43 P3.0/STE0/S31, 44 COM0, 45 P5.2/COM1, 46 P5.3/COM2, 47 P5.4/COM3, 48 R03, 49 P5.5/R13, 50 P5.6/R23, 51 P5.7/R33, 52 DVcc2, 53 DVss2, 54 P2.5/URXD0, 55 P2.4/UTXD0, 56 P2.3/TB2, 57 P2.2/TB1, 58 P2.1/TB0, 59 P2.0/TA2, 60 P1.7/CA1, 61 P1.6/CA0, 62 P1.5/TACLK/ACLK, 63 P1.4/TBCLK/SMCLK, 64 P1.3/TBOUTH/SVSOUT, 65 P1.2/TA1, 66 P1.1/TA0/MCLK, 67 P1.0/TA0, 68 XT2OUT, 69 XT2IN, 70 TDO/TDI, 71 TDI/TCLK, 72 TMS, 73 TCK, 74 ~{RST}/NMI, 75 P6.0/A0/OA0I0, 76 P6.1/A1/OA0O, 77 P6.2/A2/OA0I1, 78 AVss, 79 DVss1, 80 Avcc

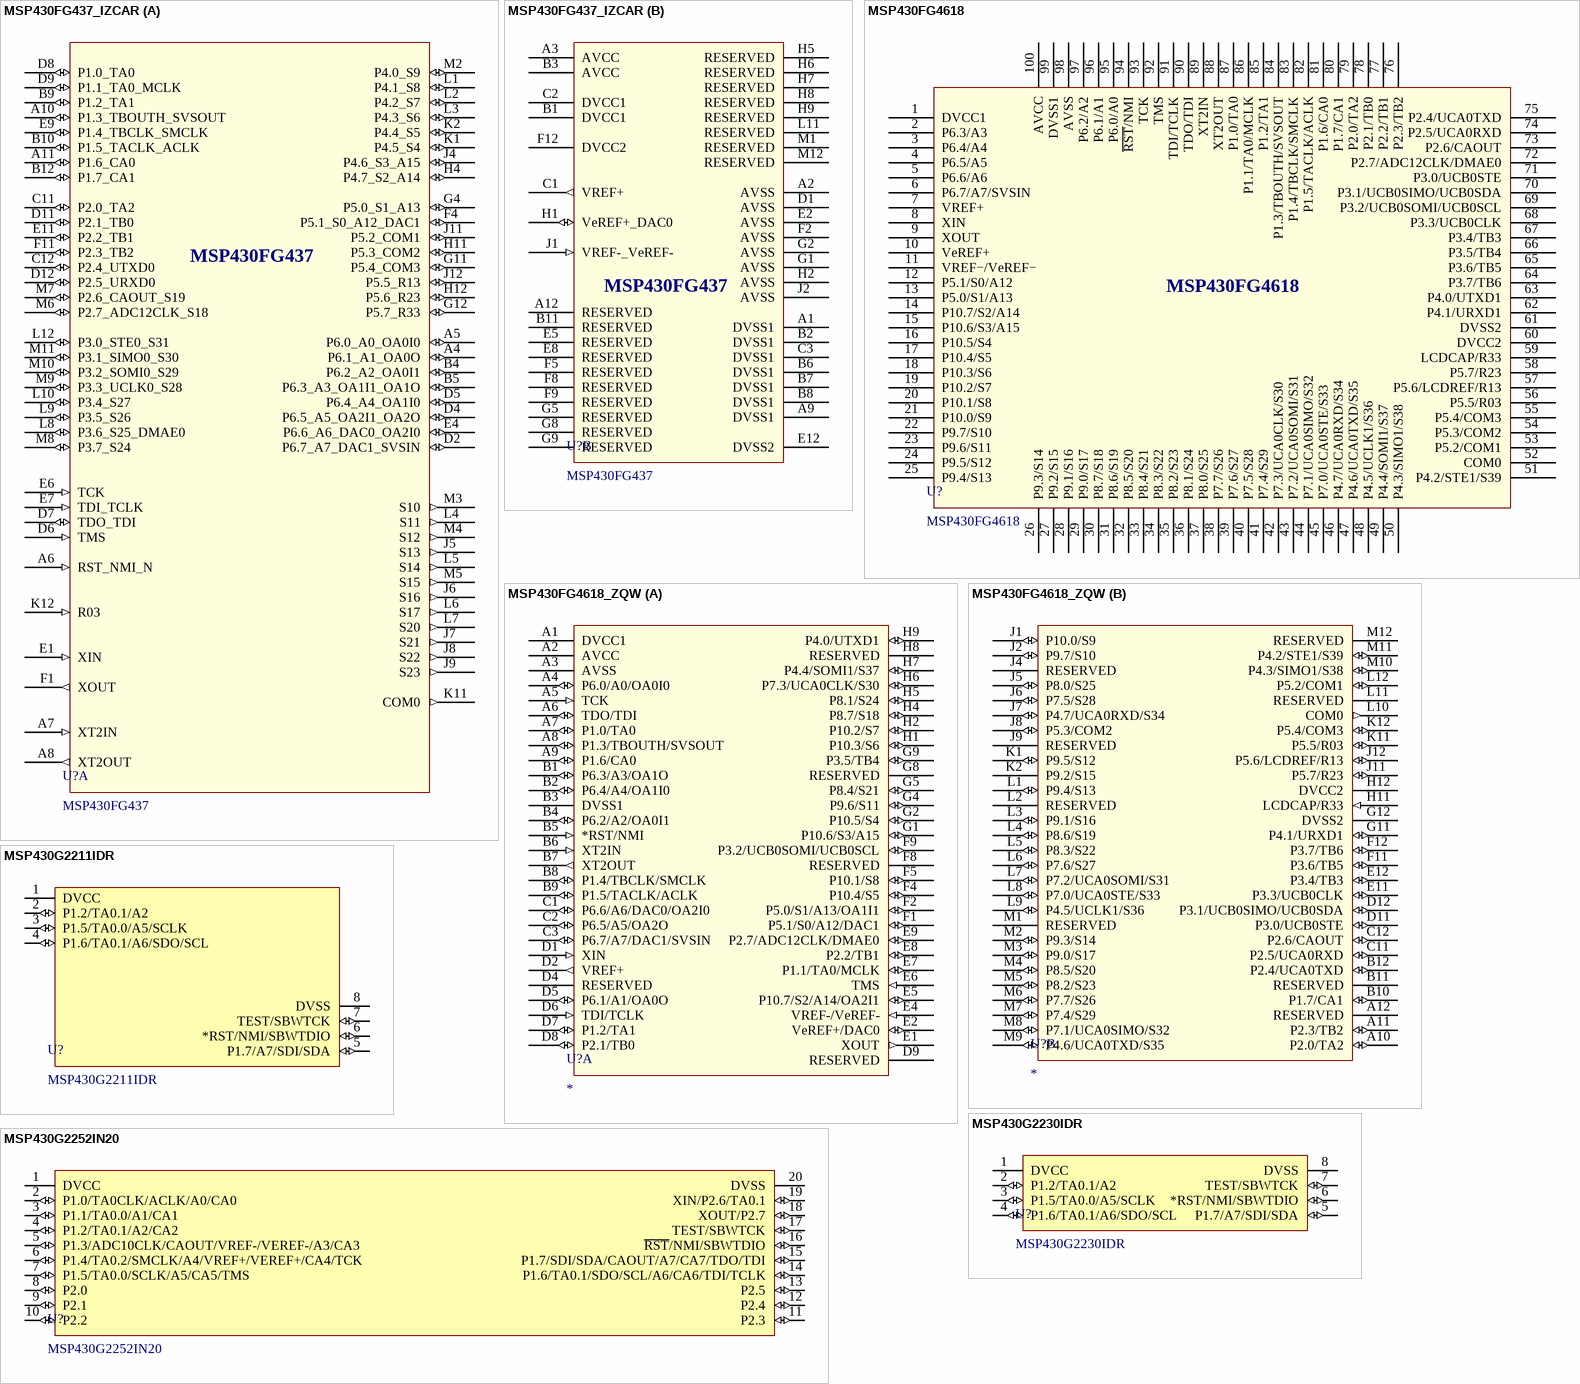
[diagram p18: symbols MSP430FG437_IZCAR to MSP430G2252IN20]

## MSP430FG437_IZCAR
designator U?, comment MSP430FG437
Imported; PartNumber: MSP430FG437IZCAR; Alternate PartNumber: MSP430FG437IZCAT; Manufacturer: Texas Instruments; CompType: IC; PIN_COUNT: 113; PackageReference: ZCA0113A; MountType: SMT; RefDes: RefDes; Type: DEV; Value: Value
footprint ZCA0113A
part A pins: A4 P6.1_A1_OA0O (io), A5 P6.0_A0_OA0I0 (io), A6 RST_NMI_N (in), A7 XT2IN (in), A8 XT2OUT (out), A10 P1.3_TBOUTH_SVSOUT (io), A11 P1.6_CA0 (io), B4 P6.2_A2_OA0I1 (io), B5 P6.3_A3_OA1I1_OA1O (io), B9 P1.2_TA1 (io), B10 P1.5_TACLK_ACLK (io), B12 P1.7_CA1 (io), C11 P2.0_TA2 (io), C12 P2.4_UTXD0 (io), D2 P6.7_A7_DAC1_SVSIN (io), D4 P6.5_A5_OA2I1_OA2O (io), D5 P6.4_A4_OA1I0 (io), D6 TMS (in), D7 TDO_TDI (io), D8 P1.0_TA0 (io), D9 P1.1_TA0_MCLK (io), D11 P2.1_TB0 (io), D12 P2.5_URXD0 (io), E1 XIN (in), E4 P6.6_A6_DAC0_OA2I0 (io), E6 TCK (in), E7 TDI_TCLK (in), E9 P1.4_TBCLK_SMCLK (io), E11 P2.2_TB1 (io), F1 XOUT (out), F4 P5.1_S0_A12_DAC1 (io), F11 P2.3_TB2 (io), G4 P5.0_S1_A13 (io), G11 P5.4_COM3 (io), G12 P5.7_R33 (io), H4 P4.7_S2_A14 (io), H11 P5.3_COM2 (io), H12 P5.6_R23 (io), J4 P4.6_S3_A15 (io), J5 S13 (out), J6 S16 (out), J7 S21 (out), J8 S22 (out), J9 S23 (out), J11 P5.2_COM1 (io), J12 P5.5_R13 (io), K1 P4.5_S4 (io), K2 P4.4_S5 (io), K11 COM0 (out), K12 R03 (in), L1 P4.1_S8 (io), L2 P4.2_S7 (io), L3 P4.3_S6 (io), L4 S11 (out), L5 S14 (out), L6 S17 (out), L7 S20 (out), L8 P3.6_S25_DMAE0 (io), L9 P3.5_S26 (io), L10 P3.4_S27 (io), L12 P3.0_STE0_S31 (io), M2 P4.0_S9 (io), M3 S10 (out), M4 S12 (out), M5 S15 (out), M6 P2.7_ADC12CLK_S18 (io), M7 P2.6_CAOUT_S19 (io), M8 P3.7_S24 (io), M9 P3.3_UCLK0_S28 (io), M10 P3.2_SOMI0_S29 (io), M11 P3.1_SIMO0_S30 (io)
part B pins: A1 DVSS1 (power), A2 AVSS (power), A3 AVCC (power), A9 DVSS1 (power), A12 RESERVED (power), B1 DVCC1 (power), B2 DVSS1 (power), B3 AVCC (power), B6 DVSS1 (power), B7 DVSS1 (power), B8 DVSS1 (power), B11 RESERVED (power), C1 VREF+ (out), C2 DVCC1 (power), C3 DVSS1 (power), D1 AVSS (power), E2 AVSS (power), E5 RESERVED (power), E8 RESERVED (power), E12 DVSS2 (power), F2 AVSS (power), F5 RESERVED (power), F8 RESERVED (power), F9 RESERVED (power), F12 DVCC2 (power), G1 AVSS (power), G2 AVSS (power), G5 RESERVED (power), G8 RESERVED (power), G9 RESERVED (power), H1 VeREF+_DAC0 (io), H2 AVSS (power), H5 RESERVED (power), H6 RESERVED (power), H7 RESERVED (power), H8 RESERVED (power), H9 RESERVED (power), J1 VREF-_VeREF- (in), J2 AVSS (power), L11 RESERVED (power), M1 RESERVED (power), M12 RESERVED (power)

## MSP430FG4618
designator U?
The Texas Instruments MSP430 family of ultralow-power microcontrollers
footprint MSP430F4618 (PZ (S-PQFP-G100) 14.2x14.2mm)
pins: 1 DVCC1, 2 P6.3/A3, 3 P6.4/A4, 4 P6.5/A5, 5 P6.6/A6, 6 P6.7/A7/SVSIN, 7 VREF+, 8 XIN, 9 XOUT, 10 VeREF+, 11 VREF−/VeREF−, 12 P5.1/S0/A12, 13 P5.0/S1/A13, 14 P10.7/S2/A14, 15 P10.6/S3/A15, 16 P10.5/S4, 17 P10.4/S5, 18 P10.3/S6, 19 P10.2/S7, 20 P10.1/S8, 21 P10.0/S9, 22 P9.7/S10, 23 P9.6/S11, 24 P9.5/S12, 25 P9.4/S13, 26 P9.3/S14, 27 P9.2/S15, 28 P9.1/S16, 29 P9.0/S17, 30 P8.7/S18, 31 P8.6/S19, 32 P8.5/S20, 33 P8.4/S21, 34 P8.3/S22, 35 P8.2/S23, 36 P8.1/S24, 37 P8.0/S25, 38 P7.7/S26, 39 P7.6/S27, 40 P7.5/S28, 41 P7.4/S29, 42 P7.3/UCA0CLK/S30 , 43 P7.2/UCA0SOMI/S31, 44 P7.1/UCA0SIMO/S32, 45 P7.0/UCA0STE/S33, 46 P4.7/UCA0RXD/S34, 47 P4.6/UCA0TXD/S35, 48 P4.5/UCLK1/S36, 49 P4.4/SOMI1/S37, 50 P4.3/SIMO1/S38, 51 P4.2/STE1/S39, 52 COM0, 53 P5.2/COM1, 54 P5.3/COM2, 55 P5.4/COM3, 56 P5.5/R03, 57 P5.6/LCDREF/R13, 58 P5.7/R23, 59 LCDCAP/R33, 60 DVCC2, 61 DVSS2, 62 P4.1/URXD1, 63 P4.0/UTXD1, 64 P3.7/TB6, 65 P3.6/TB5, 66 P3.5/TB4, 67 P3.4/TB3, 68 P3.3/UCB0CLK, 69 P3.2/UCB0SOMI/UCB0SCL, 70 P3.1/UCB0SIMO/UCB0SDA, 71 P3.0/UCB0STE, 72 P2.7/ADC12CLK/DMAE0, 73 P2.6/CAOUT, 74 P2.5/UCA0RXD, 75 P2.4/UCA0TXD, 76 P2.3/TB2, 77 P2.2/TB1, 78 P2.1/TB0, 79 P2.0/TA2, 80 P1.7/CA1, 81 P1.6/CA0, 82 P1.5/TACLK/ACLK, 83 P1.4/TBCLK/SMCLK, 84 P1.3/TBOUTH/SVSOUT, 85 P1.2/TA1, 86 P1.1/TA0/MCLK, 87 P1.0/TA0, 88 XT2OUT, 89 XT2IN, 90 TDO/TDI, 91 TDI/TCLK, 92 TMS, 93 TCK, 94 ~{RST}/NMI, 95 P6.0/A0, 96 P6.1/A1, 97 P6.2/A2, 98 AVSS, 99 DVSS1, 100 AVCC

## MSP430FG4618_ZQW
designator U?
MSP430FG4618 ZQW 113PIN; Manufacturer_Part_Number: msp430fg4618_zqw_113; Vendor: Texas Instruments; PIN_COUNT: 113; FAMILY_NAME: 4 Series with LCD; INDUSTRY_STD_PKG_TYPE: BGA MICROSTAR JUNIOR; GENERIC_PART_NUMBER: MSP430FG4618; PACKAGE_DESIGNATOR: ZQW; Datasheet URL: http://www.ti.com/lit/gpn/MSP430FG4618; Manufacturer: Texas Instruments; RefDes: RefDes; Type: DEV; Value: Value
footprint MSP430FG4618_ZQW113
part A pins: A1 DVCC1 (power), A2 AVCC (power), A3 AVSS (power), A4 P6.0/A0/OA0I0 (io), A5 TCK (in), A6 TDO/TDI (io), A7 P1.0/TA0 (io), A8 P1.3/TBOUTH/SVSOUT (io), A9 P1.6/CA0 (io), B1 P6.3/A3/OA1O (io), B2 P6.4/A4/OA1I0 (io), B3 DVSS1 (power), B4 P6.2/A2/OA0I1 (io), B5 *RST/NMI (in), B6 XT2IN (in), B7 XT2OUT (out), B8 P1.4/TBCLK/SMCLK (io), B9 P1.5/TACLK/ACLK (io), C1 P6.6/A6/DAC0/OA2I0 (io), C2 P6.5/A5/OA2O (io), C3 P6.7/A7/DAC1/SVSIN (io), D1 XIN (in), D2 VREF+ (out), D4 RESERVED, D5 P6.1/A1/OA0O (io), D6 TDI/TCLK (in), D7 P1.2/TA1 (io), D8 P2.1/TB0 (io), D9 RESERVED, E1 XOUT (out), E2 VeREF+/DAC0 (io), E4 VREF-/VeREF- (in), E5 P10.7/S2/A14/OA2I1 (io), E6 TMS (in), E7 P1.1/TA0/MCLK (io), E8 P2.2/TB1 (io), E9 P2.7/ADC12CLK/DMAE0 (io), F1 P5.1/S0/A12/DAC1 (io), F2 P5.0/S1/A13/OA1I1 (io), F4 P10.4/S5 (io), F5 P10.1/S8 (io), F8 RESERVED, F9 P3.2/UCB0SOMI/UCB0SCL (io), G1 P10.6/S3/A15 (io), G2 P10.5/S4 (io), G4 P9.6/S11 (io), G5 P8.4/S21 (io), G8 RESERVED, G9 P3.5/TB4 (io), H1 P10.3/S6 (io), H2 P10.2/S7 (io), H4 P8.7/S18 (io), H5 P8.1/S24 (io), H6 P7.3/UCA0CLK/S30 (io), H7 P4.4/SOMI1/S37 (io), H8 RESERVED, H9 P4.0/UTXD1 (io)
part B pins: A10 P2.0/TA2 (io), A11 P2.3/TB2 (io), A12 RESERVED, B10 P1.7/CA1 (io), B11 RESERVED, B12 P2.4/UCA0TXD (io), C11 P2.5/UCA0RXD (io), C12 P2.6/CAOUT (io), D11 P3.0/UCB0STE (io), D12 P3.1/UCB0SIMO/UCB0SDA (io), E11 P3.3/UCB0CLK (io), E12 P3.4/TB3 (io), F11 P3.6/TB5 (io), F12 P3.7/TB6 (io), G11 P4.1/URXD1 (io), G12 DVSS2 (power), H11 LCDCAP/R33 (in), H12 DVCC2 (power), J1 P10.0/S9 (io), J2 P9.7/S10 (io), J4 RESERVED, J5 P8.0/S25 (io), J6 P7.5/S28 (io), J7 P4.7/UCA0RXD/S34 (io), J8 P5.3/COM2 (io), J9 RESERVED, J11 P5.7/R23 (io), J12 P5.6/LCDREF/R13 (io), K1 P9.5/S12 (io), K2 P9.2/S15, K11 P5.5/R03 (io), K12 P5.4/COM3 (io), L1 P9.4/S13 (io), L2 RESERVED, L3 P9.1/S16 (io), L4 P8.6/S19 (io), L5 P8.3/S22 (io), L6 P7.6/S27 (io), L7 P7.2/UCA0SOMI/S31 (io), L8 P7.0/UCA0STE/S33 (io), L9 P4.5/UCLK1/S36 (io), L10 COM0 (out), L11 RESERVED, L12 P5.2/COM1 (io), M1 RESERVED, M2 P9.3/S14 (io), M3 P9.0/S17 (io), M4 P8.5/S20 (io), M5 P8.2/S23 (io), M6 P7.7/S26 (io), M7 P7.4/S29 (io), M8 P7.1/UCA0SIMO/S32 (io), M9 P4.6/UCA0TXD/S35 (io), M10 P4.3/SIMO1/S38 (io), M11 P4.2/STE1/S39 (io), M12 RESERVED

## MSP430G2211IDR
designator U?
MCU 16bit 2KB 1.8-3.6V 16MHz SOIC-14; ComponentLink1Description: Datasheet; ComponentLink1URL: D:\Dropbox\Datasheets\Microcontrolers\MSP430\MSP430x2xx Family\MSP430G2230.pdf; Unit Price: 0.4000
pins: 1 DVCC (power), 2 P1.2/TA0.1/A2 (io), 3 P1.5/TA0.0/A5/SCLK (io), 4 P1.6/TA0.1/A6/SDO/SCL (io), 5 P1.7/A7/SDI/SDA (io), 6 *RST/NMI/SBWTDIO (io), 7 TEST/SBWTCK (io), 8 DVSS (power)

## MSP430G2230IDR
designator U?
MCU 16bit 2KB 1.8-3.6V 16MHz SOIC-8; ComponentLink1Description: Datasheet; ComponentLink1URL: D:\Dropbox\Datasheets\Microcontrolers\MSP430\MSP430x2xx Family\MSP430G2230.pdf; Unit Price: 0.4000
footprint SOIC-8
pins: 1 DVCC (power), 2 P1.2/TA0.1/A2 (io), 3 P1.5/TA0.0/A5/SCLK (io), 4 P1.6/TA0.1/A6/SDO/SCL (io), 5 P1.7/A7/SDI/SDA (io), 6 *RST/NMI/SBWTDIO (io), 7 TEST/SBWTCK (io), 8 DVSS (power)

## MSP430G2252IN20
designator U?
MCU 16bit 16KB 1.8-3.6V 16MHz DIP20; ComponentLink1Description: Datasheet; ComponentLink1URL: D:\Dropbox\Datasheets\Microcontrolers\MSP430\MSP430x2xx Family\MSP430G2553.pdf; Unit Price: 1.0000
footprint MSP430G2552 (DIP 20, 20 PIN, W 300mil, Pin to pin 100mil)
pins: 1 DVCC (power), 2 P1.0/TA0CLK/ACLK/A0/CA0 (io), 3 P1.1/TA0.0/A1/CA1 (io), 4 P1.2/TA0.1/A2/CA2 (io), 5 P1.3/ADC10CLK/CAOUT/VREF-/VEREF-/A3/CA3 (io), 6 P1.4/TA0.2/SMCLK/A4/VREF+/VEREF+/CA4/TCK (io), 7 P1.5/TA0.0/SCLK/A5/CA5/TMS (io), 8 P2.0 (io), 9 P2.1 (io), 10 P2.2 (io), 11 P2.3 (io), 12 P2.4 (io), 13 P2.5 (io), 14 P1.6/TA0.1/SDO/SCL/A6/CA6/TDI/TCLK (io), 15 P1.7/SDI/SDA/CAOUT/A7/CA7/TDO/TDI (io), 16 ~{RST}/NMI/SBWTDIO (io), 17 TEST/SBWTCK (io), 18 XOUT/P2.7 (io), 19 XIN/P2.6/TA0.1 (io), 20 DVSS (power)

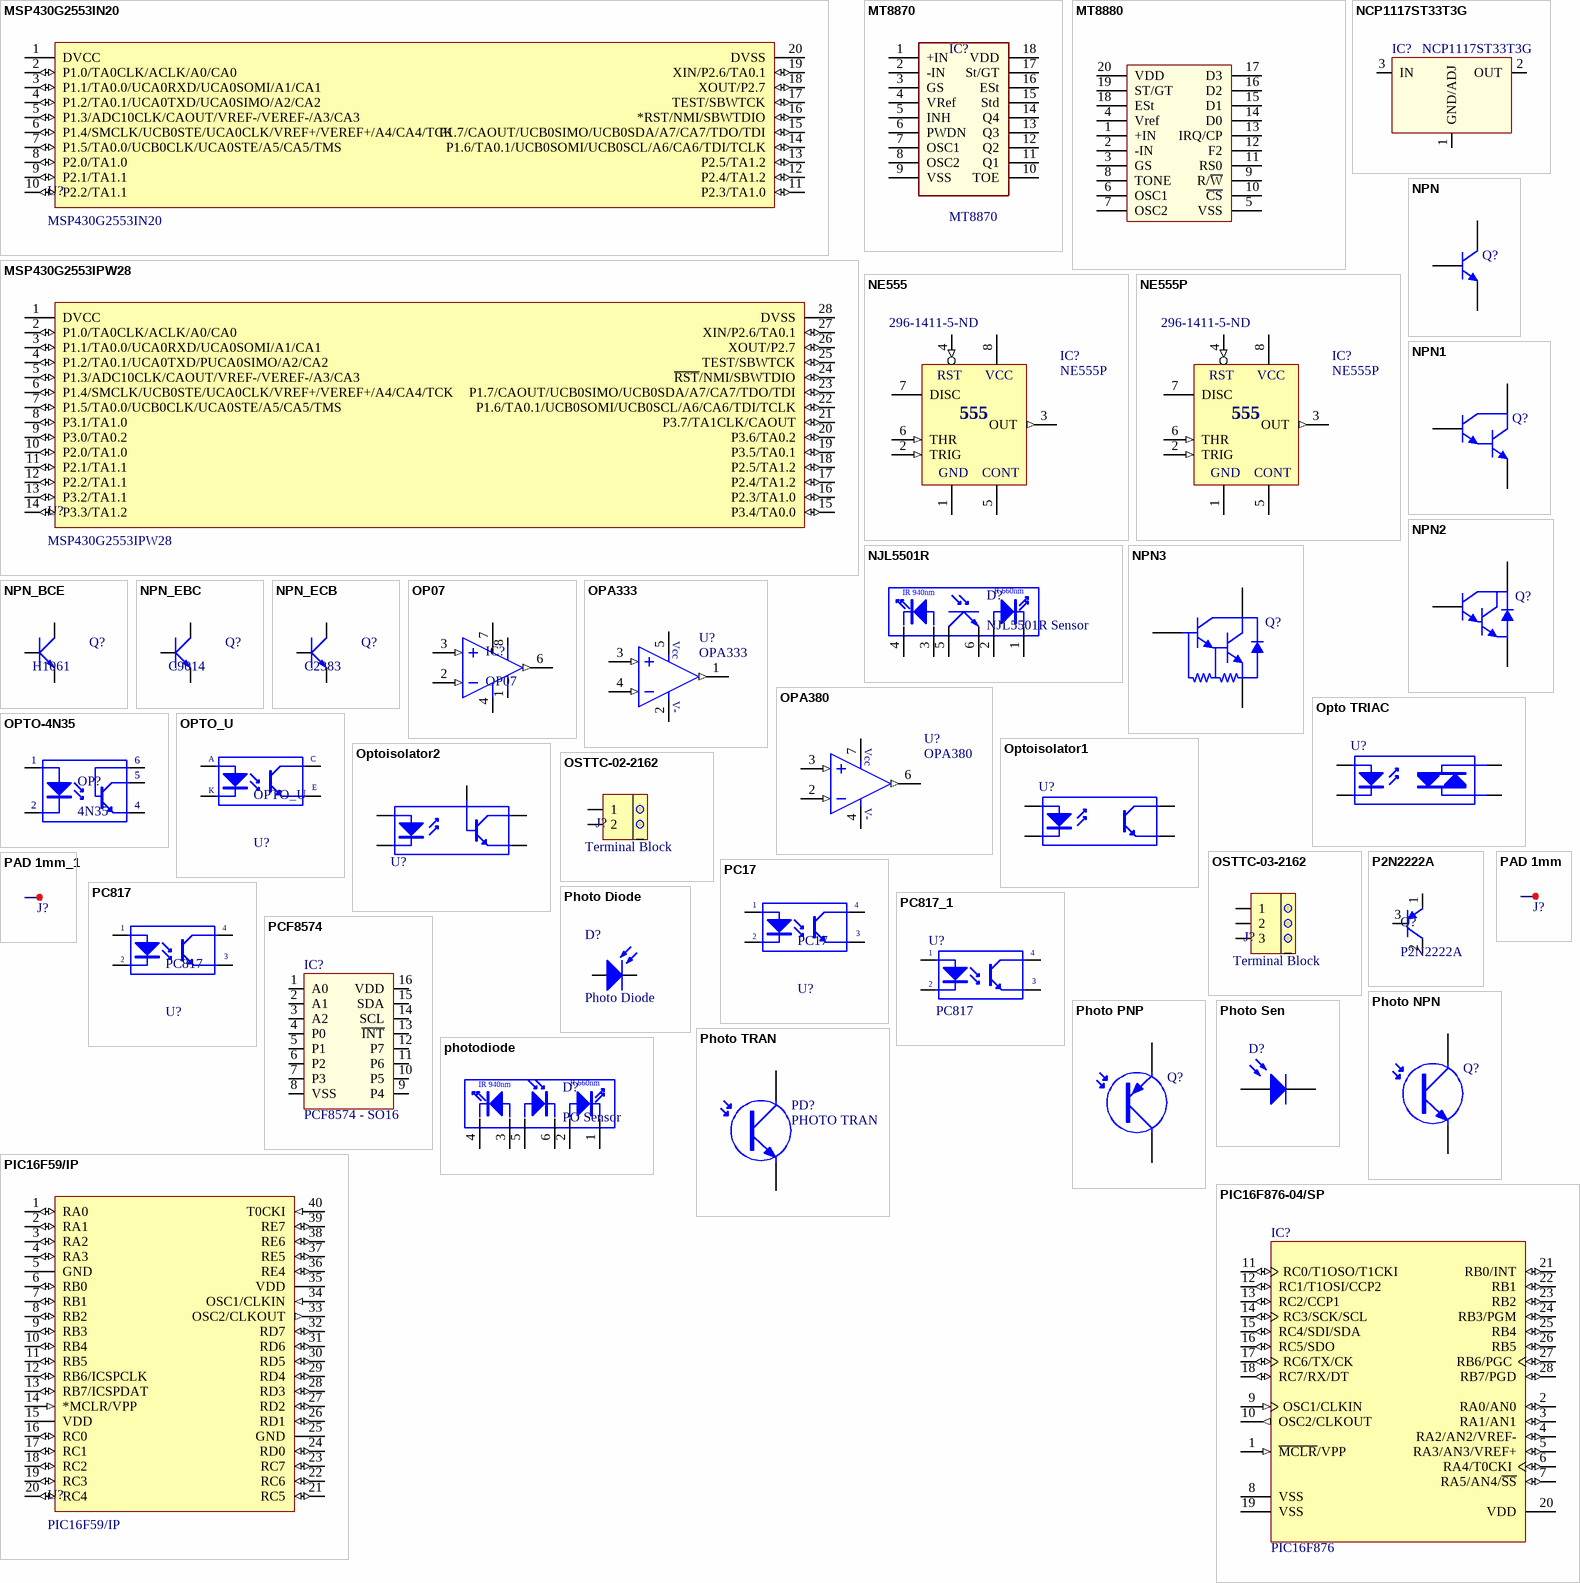
[diagram p19: symbols MSP430G2553IN20 to PIC16F876-04/SP]

## MSP430G2553IN20
designator U?
MCU 16bit 16KB 1.8-3.6V 16MHz DIP20; ComponentLink1Description: Datasheet; ComponentLink1URL: D:\Dropbox\Datasheets\Microcontrolers\MSP430\MSP430x2xx Family\MSP430G2553.pdf; Unit Price: 1.0000
footprint MSP430G2553 (DIP 20, 20 PIN, W 300mil, Pin to pin 100mil)
pins: 1 DVCC (power), 2 P1.0/TA0CLK/ACLK/A0/CA0 (io), 3 P1.1/TA0.0/UCA0RXD/UCA0SOMI/A1/CA1 (io), 4 P1.2/TA0.1/UCA0TXD/UCA0SIMO/A2/CA2 (io), 5 P1.3/ADC10CLK/CAOUT/VREF-/VEREF-/A3/CA3 (io), 6 P1.4/SMCLK/UCB0STE/UCA0CLK/VREF+/VEREF+/A4/CA4/TCK (io), 7 P1.5/TA0.0/UCB0CLK/UCA0STE/A5/CA5/TMS (io), 8 P2.0/TA1.0 (io), 9 P2.1/TA1.1 (io), 10 P2.2/TA1.1 (io), 11 P2.3/TA1.0 (io), 12 P2.4/TA1.2 (io), 13 P2.5/TA1.2 (io), 14 P1.6/TA0.1/UCB0SOMI/UCB0SCL/A6/CA6/TDI/TCLK (io), 15 P1.7/CAOUT/UCB0SIMO/UCB0SDA/A7/CA7/TDO/TDI (io), 16 *RST/NMI/SBWTDIO (io), 17 TEST/SBWTCK (io), 18 XOUT/P2.7 (io), 19 XIN/P2.6/TA0.1 (io), 20 DVSS (power)

## MSP430G2553IPW28
designator U?
MCU 16bit 16KB 1.8-3.6V 16MHz TSSOP28; ComponentLink1Description: Datasheet; ComponentLink1URL: D:\Dropbox\Datasheets\Microcontrolers\MSP430\MSP430x2xx Family\MSP430G2553.pdf; Unit Price: 1.0000
footprint MSP430G2253IPW28R (TSSOP PW 28  PIN TO PIN 0.65)
pins: 1 DVCC (power), 2 P1.0/TA0CLK/ACLK/A0/CA0 (io), 3 P1.1/TA0.0/UCA0RXD/UCA0SOMI/A1/CA1 (io), 4 P1.2/TA0.1/UCA0TXD/PUCA0SIMO/A2/CA2 (io), 5 P1.3/ADC10CLK/CAOUT/VREF-/VEREF-/A3/CA3 (io), 6 P1.4/SMCLK/UCB0STE/UCA0CLK/VREF+/VEREF+/A4/CA4/TCK (io), 7 P1.5/TA0.0/UCB0CLK/UCA0STE/A5/CA5/TMS (io), 8 P3.1/TA1.0 (io), 9 P3.0/TA0.2 (io), 10 P2.0/TA1.0 (io), 11 P2.1/TA1.1 (io), 12 P2.2/TA1.1 (io), 13 P3.2/TA1.1 (io), 14 P3.3/TA1.2 (io), 15 P3.4/TA0.0 (io), 16 P2.3/TA1.0 (io), 17 P2.4/TA1.2 (io), 18 P2.5/TA1.2 (io), 19 P3.5/TA0.1 (io), 20 P3.6/TA0.2 (io), 21 P3.7/TA1CLK/CAOUT (io), 22 P1.6/TA0.1/UCB0SOMI/UCB0SCL/A6/CA6/TDI/TCLK (io), 23 P1.7/CAOUT/UCB0SIMO/UCB0SDA/A7/CA7/TDO/TDI (io), 24 ~{RST}/NMI/SBWTDIO (io), 25 TEST/SBWTCK (io), 26 XOUT/P2.7 (io), 27 XIN/P2.6/TA0.1 (io), 28 DVSS (power)

## MT8870
designator IC?
DTMF RECEIVER IC MT8870 TESTER; Value: MT8068
footprint DIP18/W0.3 (18 PIN, W 300mil, Pin to pin 100mil)
pins: 1 +IN, 2 -IN, 3 GS, 4 VRef, 5 INH, 6 PWDN, 7 OSC1, 8 OSC2, 9 VSS, 10 TOE, 11 Q1, 12 Q2, 13 Q3, 14 Q4, 15 Std, 16 ESt, 17 St/GT, 18 VDD

## MT8880
designator IC?, comment MT8880C
Integrated DTMF Transceiver; Value: DIP20; Value: MT8880C
footprint DIP20/W0.3 (DIP 20, 20 PIN, W 300mil, Pin to pin 100mil)
pins: 1 +IN, 2 -IN, 3 GS, 4 Vref, 5 VSS, 6 OSC1, 7 OSC2, 8 TONE, 9 R/~{W}, 10 ~{CS}, 11 RS0, 12 F2, 13 IRQ/CP, 14 D0, 15 D1, 16 D2, 17 D3, 18 ESt, 19 ST/GT, 20 VDD

## NCP1117ST33T3G
designator IC?
SOT223
footprint NCP1117ST33T3G - duplicate (SOT223)
pins: 1 GND/ADJ, 2 OUT, 3 IN

## NE555
designator IC?, comment NE555P  Supplier Part Number 1: 296-1411-5-ND
Timer NE555P; Manufacturer: Texas Instruments; Cost (VNĐ): 4000; Frequency: 100kHz; Voltage - Supply: 4.5 V ~ 16 V; Current - Supply: 10mA; Value: NE555P; BuyLink: http://www.tme.vn/Product.aspx?id=963#page=pro_info; Supplier 1: Digi-Key; Manufacturer Part Number: NE555P; RoHS: RoHS Compliant; Category: Integrated Circuits (ICs); Stock 1: 25606; Pricing 1: 1=0.44, 10=0.353, 100=0.24, 500=0.18, 1000=0.135 (USD); Packaging: Tube; Part Status: Active; Type: 555 Type, Timer/Oscillator (Single); Count: -; Operating Temperature: 0°C ~ 70°C; Package / Case: 8-DIP (0.300", 7.62mm); Supplier Device Package: 8-PDIP; Mounting Type: Through Hole; ComponentLink1URL: http://www.ti.com/lit/ds/symlink/ne555.pdf; ComponentLink1Description: http://www.ti.com/lit/ds/symlink/ne555.pdf
footprint LM555 (DIP 8, 8 PIN, W 7.62, Pin to pin 2.54MM)
pins: 1 GND (power), 2 TRIG (in), 3 OUT (out), 4 RST (in), 5 CONT, 6 THR (in), 7 DISC (oc), 8 VCC (power)
text: 555

## NE555P
designator IC?  Supplier Part Number 1: 296-1411-5-ND
Timer NE555P; Manufacturer: Texas Instruments; Cost (VNĐ): 4000; Frequency: 100kHz; Voltage - Supply: 4.5 V ~ 16 V; Current - Supply: 10mA; Value: NE555P; BuyLink: http://www.tme.vn/Product.aspx?id=963#page=pro_info; Supplier 1: Digi-Key; Manufacturer Part Number: NE555P; RoHS: RoHS Compliant; Category: Integrated Circuits (ICs); Stock 1: 25606; Pricing 1: 1=0.44, 10=0.353, 100=0.24, 500=0.18, 1000=0.135 (USD); Packaging: Tube; Part Status: Active; Type: 555 Type, Timer/Oscillator (Single); Count: -; Operating Temperature: 0°C ~ 70°C; Package / Case: 8-DIP (0.300", 7.62mm); Supplier Device Package: 8-PDIP; Mounting Type: Through Hole; ComponentLink1URL: http://www.ti.com/lit/ds/symlink/ne555.pdf; ComponentLink1Description: http://www.ti.com/lit/ds/symlink/ne555.pdf
footprint LM555 (DIP 8, 8 PIN, W 7.62, Pin to pin 2.54MM)
pins: 1 GND (power), 2 TRIG (in), 3 OUT (out), 4 RST (in), 5 CONT, 6 THR (in), 7 DISC (oc), 8 VCC (power)
text: 555

## NJL5501R
designator D?, comment NJL5501R Sensor
Reflective Blood Sensor
footprint NJL5501R (Integrated Dual Emitter and Photodetector 1.9x2.6x0.8mm)
pins: 1 RedK, 2 RedA, 3 IRA, 4 IRK, 5 Collector, 6 Emitter
text: IR 940nm; R 660nm

## NPN
designator Q?
NPN Bipolar Transistor; Published: 8-Jun-2000; LatestRevisionDate: 17-Jul-2002; LatestRevisionNote: Re-released for DXP Platform.; PackageReference: TO-226-AA; Publisher: Altium Limited; PackageDescription: TO, Flat Index; 3 In-Line, Axial Leads; Body Dia. 4.8mm; Leads 0.55 x 0.51 mm (max); Code_JEDEC: TO-226-AA
footprint TO-226-AA (TO, Flat Index; 3 In-Line, Axial Leads; Body Dia. 4.8mm; Leads 0.55 x 0.51 mm (max))
simulation model NPN
signal-integrity model NPN
pins: 1 C, 2 B, 3 E

## NPN1
designator Q?
NPN Darlington Bipolar Transistor; Published: 8-Jun-2000; LatestRevisionDate: 17-Jul-2002; LatestRevisionNote: Re-released for DXP Platform.; DatasheetVersion: 1989; PackageVersion: 1989; PackageReference: TO-92; Publisher: Altium Limited; PackageDescription: TO, Flat Index; 3 In-Line, Axial Leads; Body Dia. 4.6mm; Leads 0.41 x 0.39 mm (max); Code_JEDEC: TO-92
footprint TO-92 (TO, Flat Index; 3 In-Line, Axial Leads; Body Dia. 4.6mm; Leads 0.41 x 0.39 mm (max))
simulation model NPN1 (Spice Subcircuit)
signal-integrity model NPN
pins: 1 C, 2 B, 3 E

## NPN2
designator Q?
NPN Darlington Bipolar Transistor; Published: 8-Jun-2000; LatestRevisionDate: 17-Jul-2002; LatestRevisionNote: Re-released for DXP Platform.; PackageReference: TO-226-AE; Publisher: Altium Limited; PackageDescription: TO, Flat Index; 3 In-Line, Axial Leads; Body Dia. 4.8mm; Leads 0.55 x 0.51 mm (max); Code_JEDEC: TO-226-AE
footprint TO-226-AE (TO, Flat Index; 3 In-Line, Axial Leads; Body Dia. 4.8mm; Leads 0.55 x 0.51 mm (max))
simulation model NPN2 (Spice Subcircuit)
signal-integrity model NPN
pins: 1 C, 2 B, 3 E

## NPN3
designator Q?
NPN Darlington Bipolar Transistor; Published: 8-Jun-2000; LatestRevisionDate: 17-Jul-2002; LatestRevisionNote: Re-released for DXP Platform.; PackageReference: TO-237-AA; Publisher: Altium Limited; PackageDescription: TO, Flat Index; 3 In-Line, Axial Leads; Body Dia. 4.8mm; Lead Dia. 0.56 mm (max); Code_JEDEC: TO-237-AA
footprint TO-237-AA (TO, Flat Index; 3 In-Line, Axial Leads; Body Dia. 4.8mm; Lead Dia. 0.56 mm (max))
simulation model NPN3 (Spice Subcircuit)
signal-integrity model NPN
pins: 1 C, 2 B, 3 E

## NPN_BCE
designator Q?, comment H1061
P 1W, BCE; Value: TIP41
footprint QTO-220 (TO-220 - 1-2-3)
pins: 1 B, 2 C, 3 E

## NPN_EBC
designator Q?, comment C9014
P 600mW, EBC; Value: C9014
footprint QTO-92 (TO-92)
pins: 1 E, 2 B, 3 C

## NPN_ECB
designator Q?, comment C2383
P 600mW, ECB; Value: C1815
footprint QTO-92 (TO-92)
pins: 1 E, 2 C, 3 B